# Altium schematic symbol library FPGA_Xilinx_Kintex7.SchLib: 18 symbols (part 1 of 8)
Pins are listed as number, name and electrical type; pins without a type are passive.

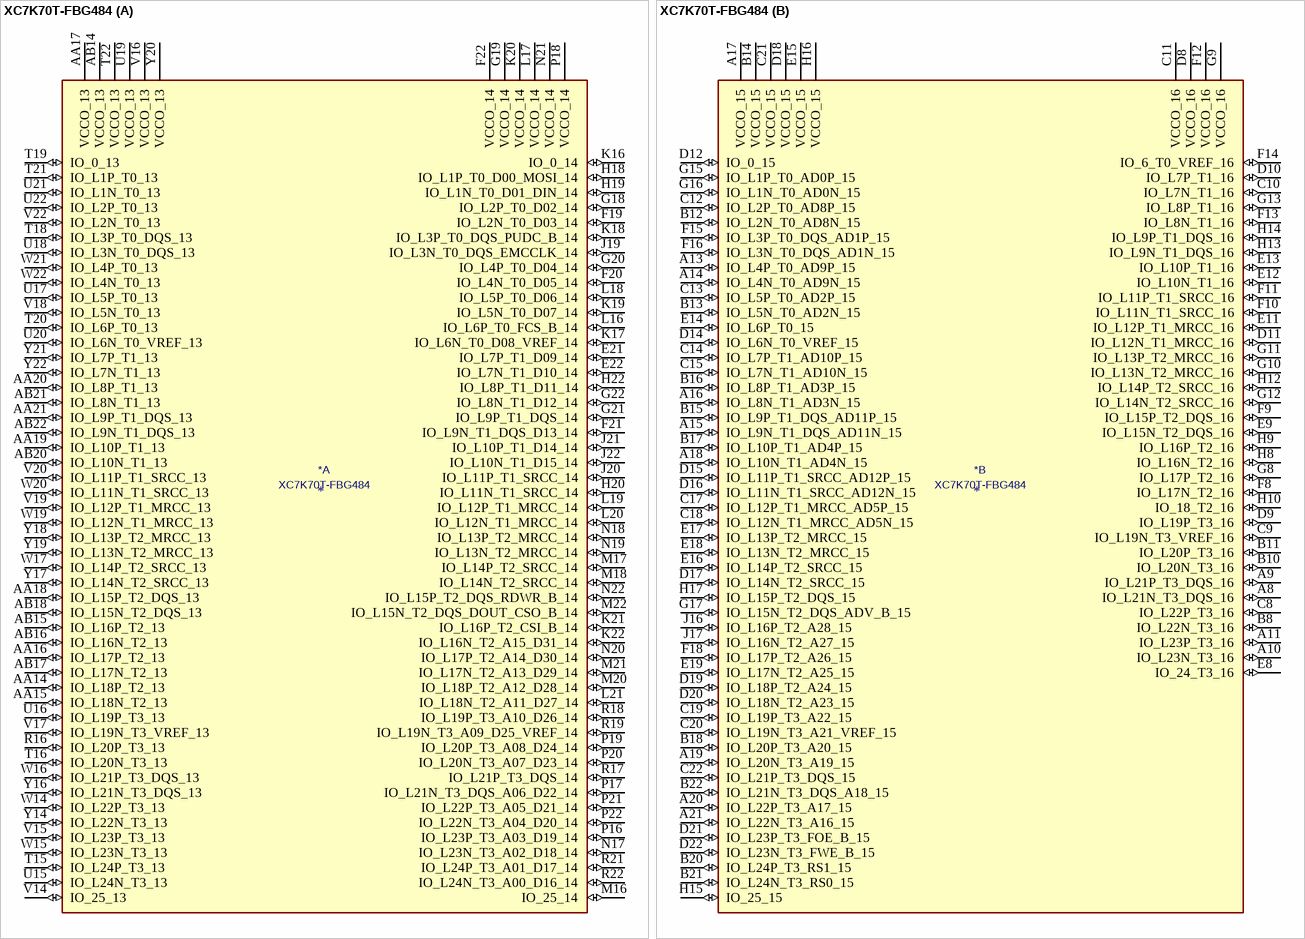
[diagram p0: symbol XC7K70T-FBG484]

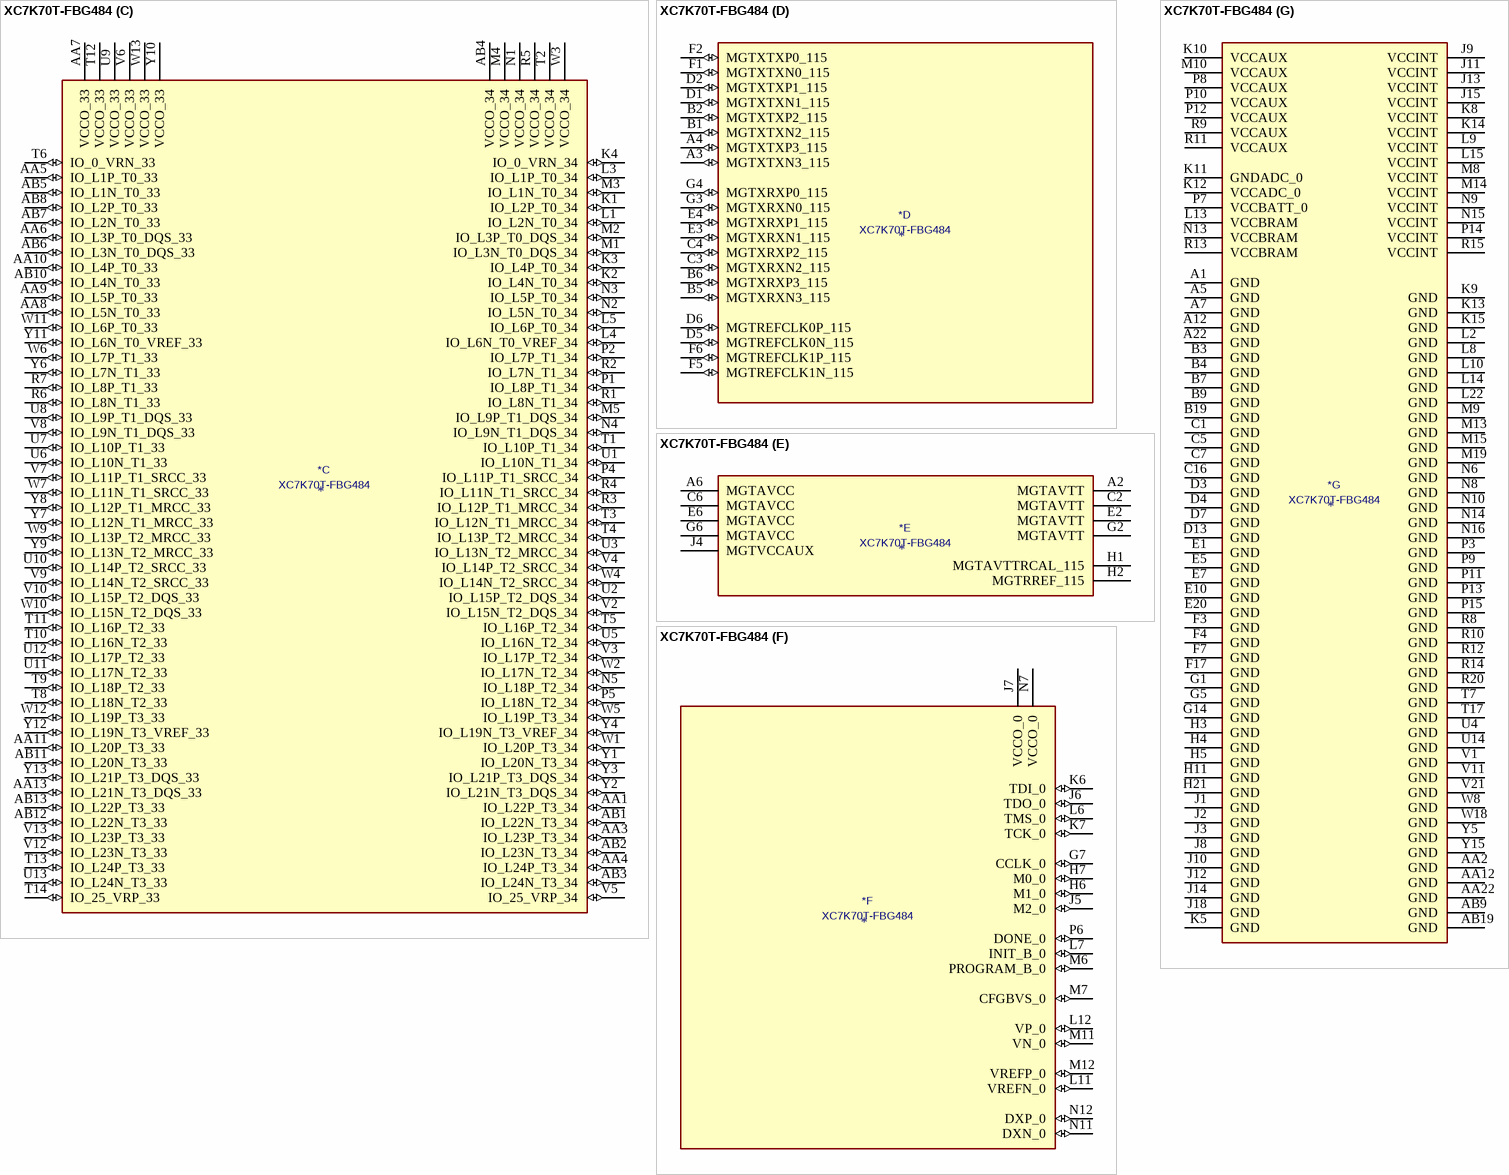
[diagram p1: symbol XC7K70T-FBG484]

## XC7K70T-FBG484
designator *  value XC7K70T-FBG484
ki_keywords: FPGA; ki_description: Kintex 7 T 70 XC7K70T-FBG484
part A pins: AA14 IO_L18P_T2_13 (io), AA15 IO_L18N_T2_13 (io), AA16 IO_L17P_T2_13 (io), AA17 VCCO_13 (power), AA18 IO_L15P_T2_DQS_13 (io), AA19 IO_L10P_T1_13 (io), AA20 IO_L8P_T1_13 (io), AA21 IO_L9P_T1_DQS_13 (io), AB14 VCCO_13 (power), AB15 IO_L16P_T2_13 (io), AB16 IO_L16N_T2_13 (io), AB17 IO_L17N_T2_13 (io), AB18 IO_L15N_T2_DQS_13 (io), AB20 IO_L10N_T1_13 (io), AB21 IO_L8N_T1_13 (io), AB22 IO_L9N_T1_DQS_13 (io), E21 IO_L7P_T1_D09_14 (io), E22 IO_L7N_T1_D10_14 (io), F19 IO_L2N_T0_D03_14 (io), F20 IO_L4N_T0_D05_14 (io), F21 IO_L9N_T1_DQS_D13_14 (io), F22 VCCO_14 (power), G18 IO_L2P_T0_D02_14 (io), G19 VCCO_14 (power), G20 IO_L4P_T0_D04_14 (io), G21 IO_L9P_T1_DQS_14 (io), G22 IO_L8N_T1_D12_14 (io), H18 IO_L1P_T0_D00_MOSI_14 (io), H19 IO_L1N_T0_D01_DIN_14 (io), H20 IO_L11N_T1_SRCC_14 (io), H22 IO_L8P_T1_D11_14 (io), J19 IO_L3N_T0_DQS_EMCCLK_14 (io), J20 IO_L11P_T1_SRCC_14 (io), J21 IO_L10P_T1_D14_14 (io), J22 IO_L10N_T1_D15_14 (io), K16 IO_0_14 (io), K17 IO_L6N_T0_D08_VREF_14 (io), K18 IO_L3P_T0_DQS_PUDC_B_14 (io), K19 IO_L5N_T0_D07_14 (io), K20 VCCO_14 (power), K21 IO_L16P_T2_CSI_B_14 (io), K22 IO_L16N_T2_A15_D31_14 (io), L16 IO_L6P_T0_FCS_B_14 (io), L17 VCCO_14 (power), L18 IO_L5P_T0_D06_14 (io), L19 IO_L12P_T1_MRCC_14 (io), L20 IO_L12N_T1_MRCC_14 (io), L21 IO_L18N_T2_A11_D27_14 (io), M16 IO_25_14 (io), M17 IO_L14P_T2_SRCC_14 (io), M18 IO_L14N_T2_SRCC_14 (io), M20 IO_L18P_T2_A12_D28_14 (io), M21 IO_L17N_T2_A13_D29_14 (io), M22 IO_L15N_T2_DQS_DOUT_CSO_B_14 (io), N17 IO_L23N_T3_A02_D18_14 (io), N18 IO_L13P_T2_MRCC_14 (io), N19 IO_L13N_T2_MRCC_14 (io), N20 IO_L17P_T2_A14_D30_14 (io), N21 VCCO_14 (power), N22 IO_L15P_T2_DQS_RDWR_B_14 (io), P16 IO_L23P_T3_A03_D19_14 (io), P17 IO_L21N_T3_DQS_A06_D22_14 (io), P18 VCCO_14 (power), P19 IO_L20P_T3_A08_D24_14 (io), P20 IO_L20N_T3_A07_D23_14 (io), P21 IO_L22P_T3_A05_D21_14 (io), P22 IO_L22N_T3_A04_D20_14 (io), R16 IO_L20P_T3_13 (io), R17 IO_L21P_T3_DQS_14 (io), R18 IO_L19P_T3_A10_D26_14 (io), R19 IO_L19N_T3_A09_D25_VREF_14 (io), R21 IO_L24P_T3_A01_D17_14 (io), R22 IO_L24N_T3_A00_D16_14 (io), T15 IO_L24P_T3_13 (io), T16 IO_L20N_T3_13 (io), T18 IO_L3P_T0_DQS_13 (io), T19 IO_0_13 (io), T20 IO_L6P_T0_13 (io), T21 IO_L1P_T0_13 (io), T22 VCCO_13 (power), U15 IO_L24N_T3_13 (io), U16 IO_L19P_T3_13 (io), U17 IO_L5P_T0_13 (io), U18 IO_L3N_T0_DQS_13 (io), U19 VCCO_13 (power), U20 IO_L6N_T0_VREF_13 (io), U21 IO_L1N_T0_13 (io), U22 IO_L2P_T0_13 (io), V14 IO_25_13 (io), V15 IO_L23P_T3_13 (io), V16 VCCO_13 (power), V17 IO_L19N_T3_VREF_13 (io), V18 IO_L5N_T0_13 (io), V19 IO_L12P_T1_MRCC_13 (io), V20 IO_L11P_T1_SRCC_13 (io), V22 IO_L2N_T0_13 (io), W14 IO_L22P_T3_13 (io), W15 IO_L23N_T3_13 (io), W16 IO_L21P_T3_DQS_13 (io), W17 IO_L14P_T2_SRCC_13 (io), W19 IO_L12N_T1_MRCC_13 (io), W20 IO_L11N_T1_SRCC_13 (io), W21 IO_L4P_T0_13 (io), W22 IO_L4N_T0_13 (io), Y14 IO_L22N_T3_13 (io), Y16 IO_L21N_T3_DQS_13 (io), Y17 IO_L14N_T2_SRCC_13 (io), Y18 IO_L13P_T2_MRCC_13 (io), Y19 IO_L13N_T2_MRCC_13 (io), Y20 VCCO_13 (power), Y21 IO_L7P_T1_13 (io), Y22 IO_L7N_T1_13 (io)
part B pins: A8 IO_L21N_T3_DQS_16 (io), A9 IO_L21P_T3_DQS_16 (io), A10 IO_L23N_T3_16 (io), A11 IO_L23P_T3_16 (io), A13 IO_L4P_T0_AD9P_15 (io), A14 IO_L4N_T0_AD9N_15 (io), A15 IO_L9N_T1_DQS_AD11N_15 (io), A16 IO_L8N_T1_AD3N_15 (io), A17 VCCO_15 (power), A18 IO_L10N_T1_AD4N_15 (io), A19 IO_L20N_T3_A19_15 (io), A20 IO_L22P_T3_A17_15 (io), A21 IO_L22N_T3_A16_15 (io), B8 IO_L22N_T3_16 (io), B10 IO_L20N_T3_16 (io), B11 IO_L20P_T3_16 (io), B12 IO_L2N_T0_AD8N_15 (io), B13 IO_L5N_T0_AD2N_15 (io), B14 VCCO_15 (power), B15 IO_L9P_T1_DQS_AD11P_15 (io), B16 IO_L8P_T1_AD3P_15 (io), B17 IO_L10P_T1_AD4P_15 (io), B18 IO_L20P_T3_A20_15 (io), B20 IO_L24P_T3_RS1_15 (io), B21 IO_L24N_T3_RS0_15 (io), B22 IO_L21N_T3_DQS_A18_15 (io), C8 IO_L22P_T3_16 (io), C9 IO_L19N_T3_VREF_16 (io), C10 IO_L7N_T1_16 (io), C11 VCCO_16 (power), C12 IO_L2P_T0_AD8P_15 (io), C13 IO_L5P_T0_AD2P_15 (io), C14 IO_L7P_T1_AD10P_15 (io), C15 IO_L7N_T1_AD10N_15 (io), C17 IO_L12P_T1_MRCC_AD5P_15 (io), C18 IO_L12N_T1_MRCC_AD5N_15 (io), C19 IO_L19P_T3_A22_15 (io), C20 IO_L19N_T3_A21_VREF_15 (io), C21 VCCO_15 (power), C22 IO_L21P_T3_DQS_15 (io), D8 VCCO_16 (power), D9 IO_L19P_T3_16 (io), D10 IO_L7P_T1_16 (io), D11 IO_L12N_T1_MRCC_16 (io), D12 IO_0_15 (io), D14 IO_L6N_T0_VREF_15 (io), D15 IO_L11P_T1_SRCC_AD12P_15 (io), D16 IO_L11N_T1_SRCC_AD12N_15 (io), D17 IO_L14N_T2_SRCC_15 (io), D18 VCCO_15 (power), D19 IO_L18P_T2_A24_15 (io), D20 IO_L18N_T2_A23_15 (io), D21 IO_L23P_T3_FOE_B_15 (io), D22 IO_L23N_T3_FWE_B_15 (io), E8 IO_24_T3_16 (io), E9 IO_L15N_T2_DQS_16 (io), E11 IO_L12P_T1_MRCC_16 (io), E12 IO_L10N_T1_16 (io), E13 IO_L10P_T1_16 (io), E14 IO_L6P_T0_15 (io), E15 VCCO_15 (power), E16 IO_L14P_T2_SRCC_15 (io), E17 IO_L13P_T2_MRCC_15 (io), E18 IO_L13N_T2_MRCC_15 (io), E19 IO_L17N_T2_A25_15 (io), F8 IO_L17N_T2_16 (io), F9 IO_L15P_T2_DQS_16 (io), F10 IO_L11N_T1_SRCC_16 (io), F11 IO_L11P_T1_SRCC_16 (io), F12 VCCO_16 (power), F13 IO_L8N_T1_16 (io), F14 IO_6_T0_VREF_16 (io), F15 IO_L3P_T0_DQS_AD1P_15 (io), F16 IO_L3N_T0_DQS_AD1N_15 (io), F18 IO_L17P_T2_A26_15 (io), G8 IO_L17P_T2_16 (io), G9 VCCO_16 (power), G10 IO_L13N_T2_MRCC_16 (io), G11 IO_L13P_T2_MRCC_16 (io), G12 IO_L14N_T2_SRCC_16 (io), G13 IO_L8P_T1_16 (io), G15 IO_L1P_T0_AD0P_15 (io), G16 IO_L1N_T0_AD0N_15 (io), G17 IO_L15N_T2_DQS_ADV_B_15 (io), H8 IO_L16N_T2_16 (io), H9 IO_L16P_T2_16 (io), H10 IO_18_T2_16 (io), H12 IO_L14P_T2_SRCC_16 (io), H13 IO_L9N_T1_DQS_16 (io), H14 IO_L9P_T1_DQS_16 (io), H15 IO_25_15 (io), H16 VCCO_15 (power), H17 IO_L15P_T2_DQS_15 (io), J16 IO_L16P_T2_A28_15 (io), J17 IO_L16N_T2_A27_15 (io)
part C pins: AA1 IO_L22P_T3_34 (io), AA3 IO_L23P_T3_34 (io), AA4 IO_L24P_T3_34 (io), AA5 IO_L1P_T0_33 (io), AA6 IO_L3P_T0_DQS_33 (io), AA7 VCCO_33 (power), AA8 IO_L5N_T0_33 (io), AA9 IO_L5P_T0_33 (io), AA10 IO_L4P_T0_33 (io), AA11 IO_L20P_T3_33 (io), AA13 IO_L21N_T3_DQS_33 (io), AB1 IO_L22N_T3_34 (io), AB2 IO_L23N_T3_34 (io), AB3 IO_L24N_T3_34 (io), AB4 VCCO_34 (power), AB5 IO_L1N_T0_33 (io), AB6 IO_L3N_T0_DQS_33 (io), AB7 IO_L2N_T0_33 (io), AB8 IO_L2P_T0_33 (io), AB10 IO_L4N_T0_33 (io), AB11 IO_L20N_T3_33 (io), AB12 IO_L22N_T3_33 (io), AB13 IO_L22P_T3_33 (io), K1 IO_L2P_T0_34 (io), K2 IO_L4N_T0_34 (io), K3 IO_L4P_T0_34 (io), K4 IO_0_VRN_34 (io), L1 IO_L2N_T0_34 (io), L3 IO_L1P_T0_34 (io), L4 IO_L6N_T0_VREF_34 (io), L5 IO_L6P_T0_34 (io), M1 IO_L3N_T0_DQS_34 (io), M2 IO_L3P_T0_DQS_34 (io), M3 IO_L1N_T0_34 (io), M4 VCCO_34 (power), M5 IO_L9P_T1_DQS_34 (io), N1 VCCO_34 (power), N2 IO_L5N_T0_34 (io), N3 IO_L5P_T0_34 (io), N4 IO_L9N_T1_DQS_34 (io), N5 IO_L18P_T2_34 (io), P1 IO_L8P_T1_34 (io), P2 IO_L7P_T1_34 (io), P4 IO_L11P_T1_SRCC_34 (io), P5 IO_L18N_T2_34 (io), R1 IO_L8N_T1_34 (io), R2 IO_L7N_T1_34 (io), R3 IO_L12P_T1_MRCC_34 (io), R4 IO_L11N_T1_SRCC_34 (io), R5 VCCO_34 (power), R6 IO_L8N_T1_33 (io), R7 IO_L8P_T1_33 (io), T1 IO_L10P_T1_34 (io), T2 VCCO_34 (power), T3 IO_L12N_T1_MRCC_34 (io), T4 IO_L13P_T2_MRCC_34 (io), T5 IO_L16P_T2_34 (io), T6 IO_0_VRN_33 (io), T8 IO_L18N_T2_33 (io), T9 IO_L18P_T2_33 (io), T10 IO_L16N_T2_33 (io), T11 IO_L16P_T2_33 (io), T12 VCCO_33 (power), T13 IO_L24P_T3_33 (io), T14 IO_25_VRP_33 (io), U1 IO_L10N_T1_34 (io), U2 IO_L15P_T2_DQS_34 (io), U3 IO_L13N_T2_MRCC_34 (io), U5 IO_L16N_T2_34 (io), U6 IO_L10N_T1_33 (io), U7 IO_L10P_T1_33 (io), U8 IO_L9P_T1_DQS_33 (io), U9 VCCO_33 (power), U10 IO_L14P_T2_SRCC_33 (io), U11 IO_L17N_T2_33 (io), U12 IO_L17P_T2_33 (io), U13 IO_L24N_T3_33 (io), V2 IO_L15N_T2_DQS_34 (io), V3 IO_L17P_T2_34 (io), V4 IO_L14P_T2_SRCC_34 (io), V5 IO_25_VRP_34 (io), V6 VCCO_33 (power), V7 IO_L11P_T1_SRCC_33 (io), V8 IO_L9N_T1_DQS_33 (io), V9 IO_L14N_T2_SRCC_33 (io), V10 IO_L15P_T2_DQS_33 (io), V12 IO_L23N_T3_33 (io), V13 IO_L23P_T3_33 (io), W1 IO_L20P_T3_34 (io), W2 IO_L17N_T2_34 (io), W3 VCCO_34 (power), W4 IO_L14N_T2_SRCC_34 (io), W5 IO_L19P_T3_34 (io), W6 IO_L7P_T1_33 (io), W7 IO_L11N_T1_SRCC_33 (io), W9 IO_L13P_T2_MRCC_33 (io), W10 IO_L15N_T2_DQS_33 (io), W11 IO_L6P_T0_33 (io), W12 IO_L19P_T3_33 (io), W13 VCCO_33 (power), Y1 IO_L20N_T3_34 (io), Y2 IO_L21N_T3_DQS_34 (io), Y3 IO_L21P_T3_DQS_34 (io), Y4 IO_L19N_T3_VREF_34 (io), Y6 IO_L7N_T1_33 (io), Y7 IO_L12N_T1_MRCC_33 (io), Y8 IO_L12P_T1_MRCC_33 (io), Y9 IO_L13N_T2_MRCC_33 (io), Y10 VCCO_33 (power), Y11 IO_L6N_T0_VREF_33 (io), Y12 IO_L19N_T3_VREF_33 (io), Y13 IO_L21P_T3_DQS_33 (io)
part D pins: A3 MGTXTXN3_115 (io), A4 MGTXTXP3_115 (io), B1 MGTXTXN2_115 (io), B2 MGTXTXP2_115 (io), B5 MGTXRXN3_115 (io), B6 MGTXRXP3_115 (io), C3 MGTXRXN2_115 (io), C4 MGTXRXP2_115 (io), D1 MGTXTXN1_115 (io), D2 MGTXTXP1_115 (io), D5 MGTREFCLK0N_115 (io), D6 MGTREFCLK0P_115 (io), E3 MGTXRXN1_115 (io), E4 MGTXRXP1_115 (io), F1 MGTXTXN0_115 (io), F2 MGTXTXP0_115 (io), F5 MGTREFCLK1N_115 (io), F6 MGTREFCLK1P_115 (io), G3 MGTXRXN0_115 (io), G4 MGTXRXP0_115 (io)
part E pins: A2 MGTAVTT (power), A6 MGTAVCC (power), C2 MGTAVTT (power), C6 MGTAVCC (power), E2 MGTAVTT (power), E6 MGTAVCC (power), G2 MGTAVTT (power), G6 MGTAVCC (power), H1 MGTAVTTRCAL_115 (power), H2 MGTRREF_115 (power), J4 MGTVCCAUX (power)
part F pins: G7 CCLK_0 (io), H6 M1_0 (io), H7 M0_0 (io), J5 M2_0 (io), J6 TDO_0 (io), J7 VCCO_0 (power), K6 TDI_0 (io), K7 TCK_0 (io), L6 TMS_0 (io), L7 INIT_B_0 (io), L11 VREFN_0 (io), L12 VP_0 (io), M6 PROGRAM_B_0 (io), M7 CFGBVS_0 (io), M11 VN_0 (io), M12 VREFP_0 (io), N7 VCCO_0 (power), N11 DXN_0 (io), N12 DXP_0 (io), P6 DONE_0 (io)
part G pins: A1 GND (power), A5 GND (power), A7 GND (power), A12 GND (power), A22 GND (power), AA2 GND (power), AA12 GND (power), AA22 GND (power), AB9 GND (power), AB19 GND (power), B3 GND (power), B4 GND (power), B7 GND (power), B9 GND (power), B19 GND (power), C1 GND (power), C5 GND (power), C7 GND (power), C16 GND (power), D3 GND (power), D4 GND (power), D7 GND (power), D13 GND (power), E1 GND (power), E5 GND (power), E7 GND (power), E10 GND (power), E20 GND (power), F3 GND (power), F4 GND (power), F7 GND (power), F17 GND (power), G1 GND (power), G5 GND (power), G14 GND (power), H3 GND (power), H4 GND (power), H5 GND (power), H11 GND (power), H21 GND (power), J1 GND (power), J2 GND (power), J3 GND (power), J8 GND (power), J9 VCCINT (power), J10 GND (power), J11 VCCINT (power), J12 GND (power), J13 VCCINT (power), J14 GND (power), J15 VCCINT (power), J18 GND (power), K5 GND (power), K8 VCCINT (power), K9 GND (power), K10 VCCAUX (power), K11 GNDADC_0 (power), K12 VCCADC_0 (power), K13 GND (power), K14 VCCINT (power), K15 GND (power), L2 GND (power), L8 GND (power), L9 VCCINT (power), L10 GND (power), L13 VCCBRAM (power), L14 GND (power), L15 VCCINT (power), L22 GND (power), M8 VCCINT (power), M9 GND (power), M10 VCCAUX (power), M13 GND (power), M14 VCCINT (power), M15 GND (power), M19 GND (power), N6 GND (power), N8 GND (power), N9 VCCINT (power), N10 GND (power), N13 VCCBRAM (power), N14 GND (power), N15 VCCINT (power), N16 GND (power), P3 GND (power), P7 VCCBATT_0 (power), P8 VCCAUX (power), P9 GND (power), P10 VCCAUX (power), P11 GND (power), P12 VCCAUX (power), P13 GND (power), P14 VCCINT (power), P15 GND (power), R8 GND (power), R9 VCCAUX (power), R10 GND (power), R11 VCCAUX (power), R12 GND (power), R13 VCCBRAM (power), R14 GND (power), R15 VCCINT (power), R20 GND (power), T7 GND (power), T17 GND (power), U4 GND (power), U14 GND (power), V1 GND (power), V11 GND (power), V21 GND (power), W8 GND (power), W18 GND (power), Y5 GND (power), Y15 GND (power)

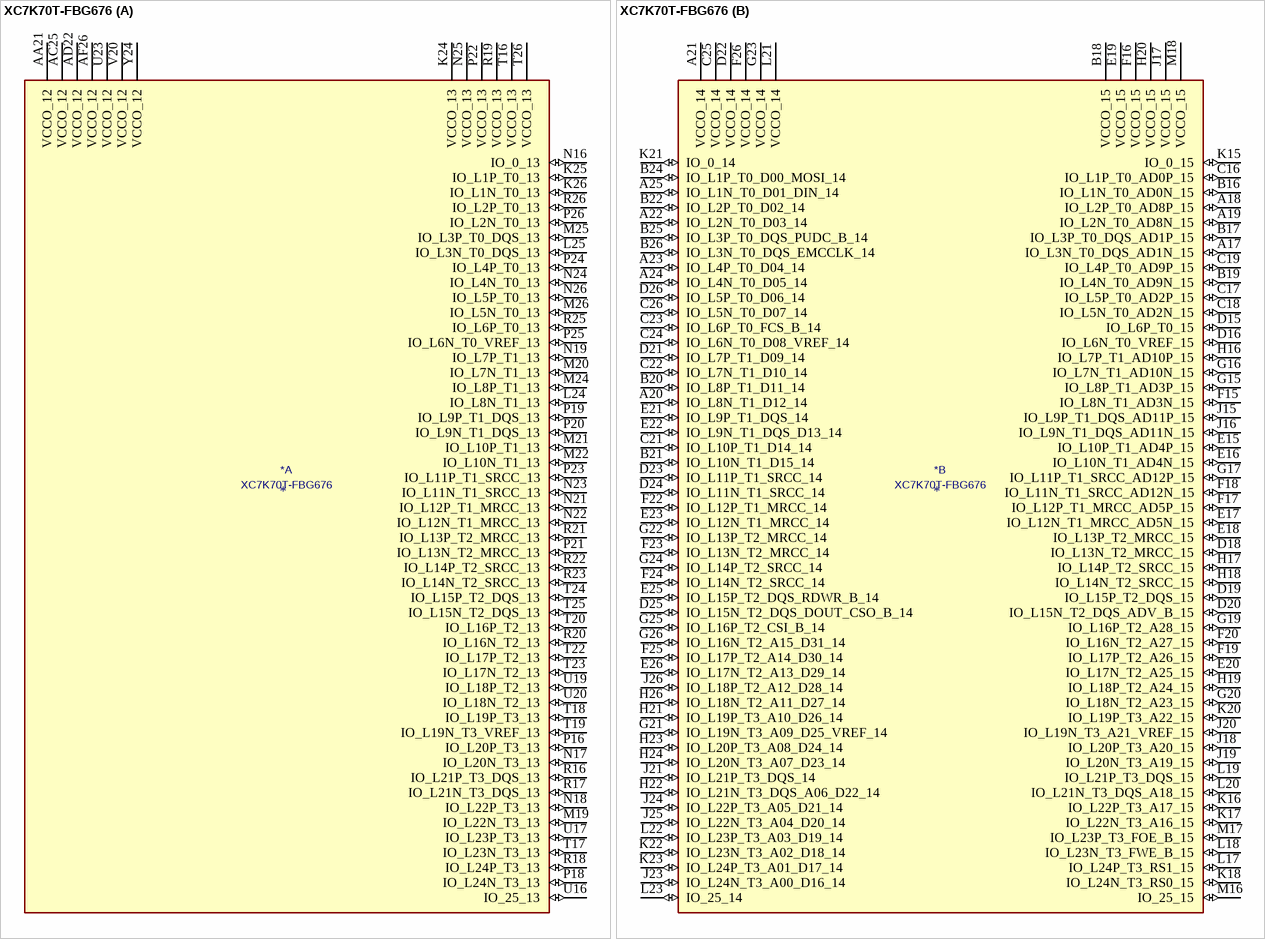
[diagram p2: symbol XC7K70T-FBG676]

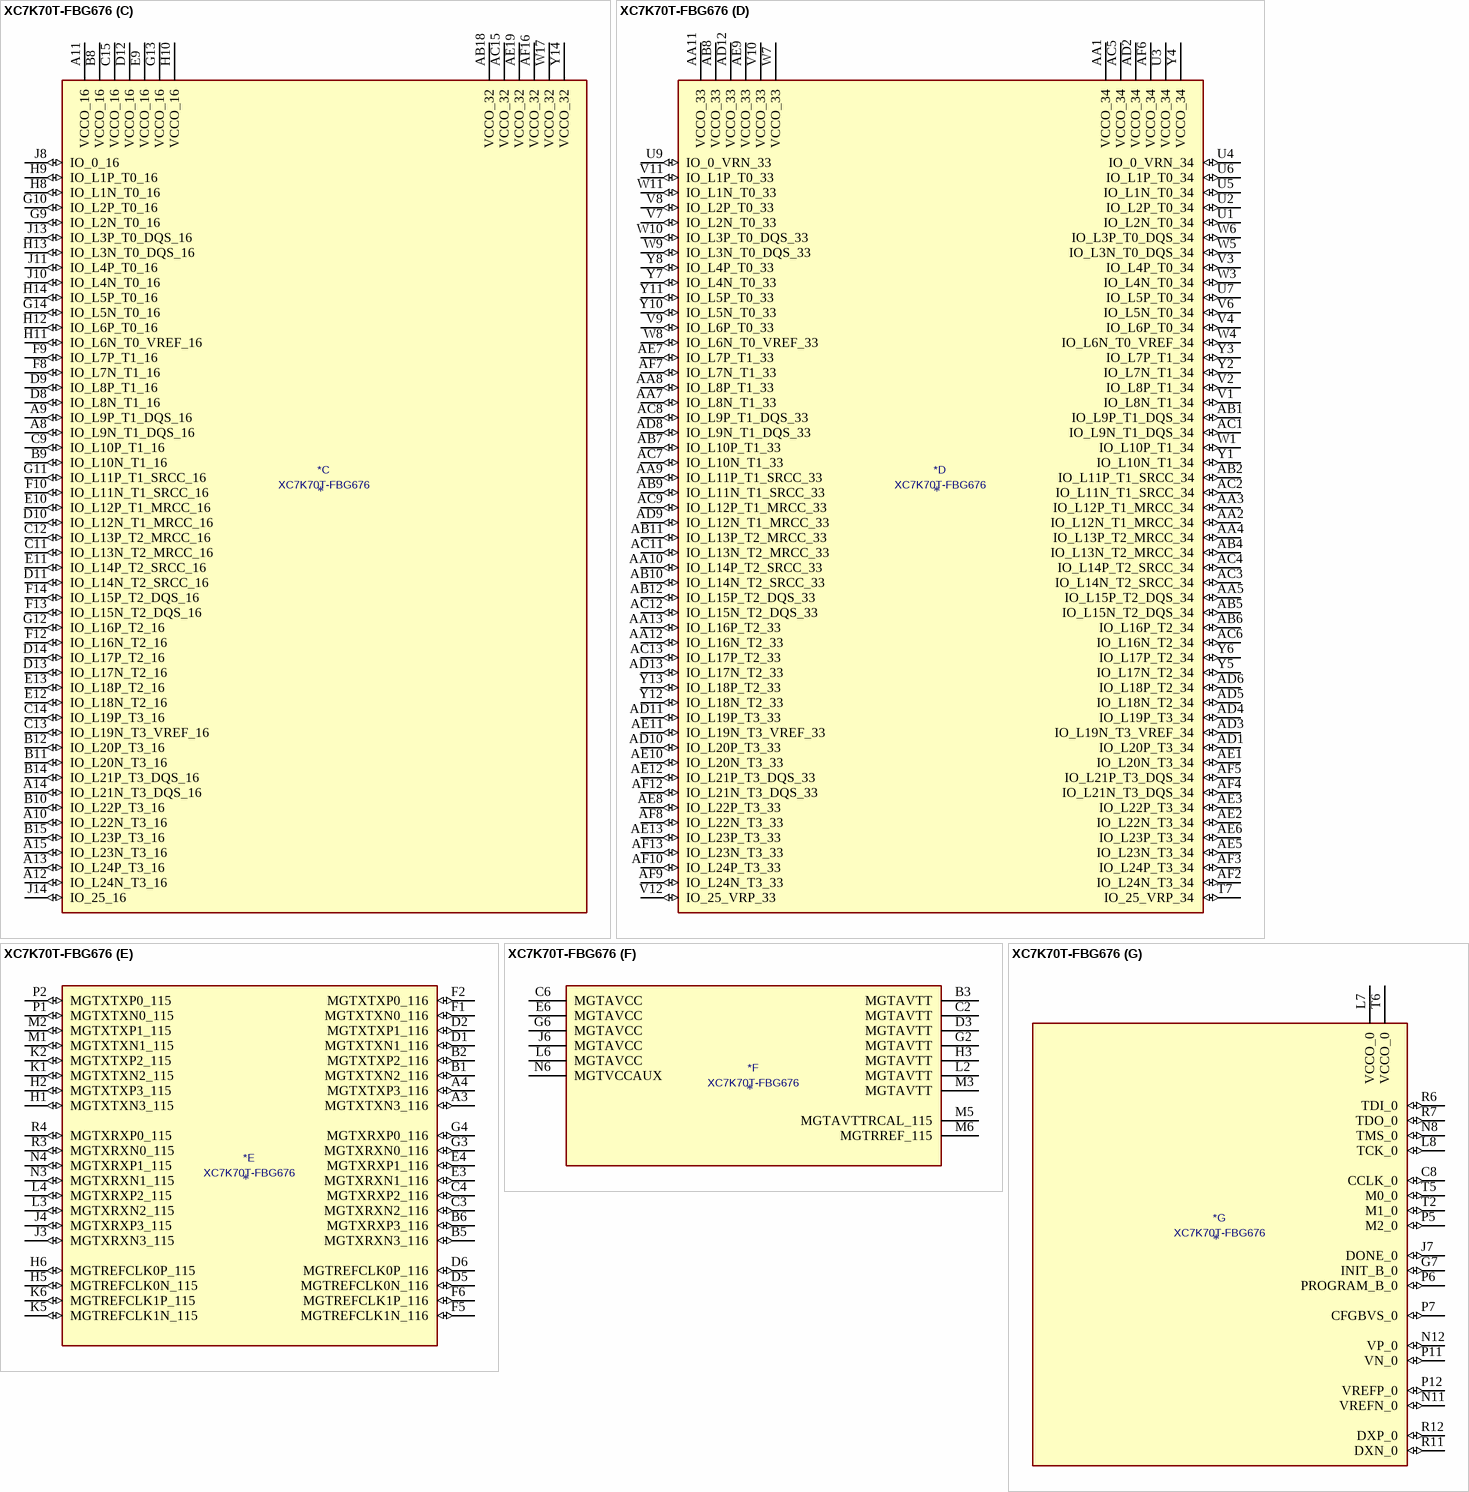
[diagram p3: symbol XC7K70T-FBG676]

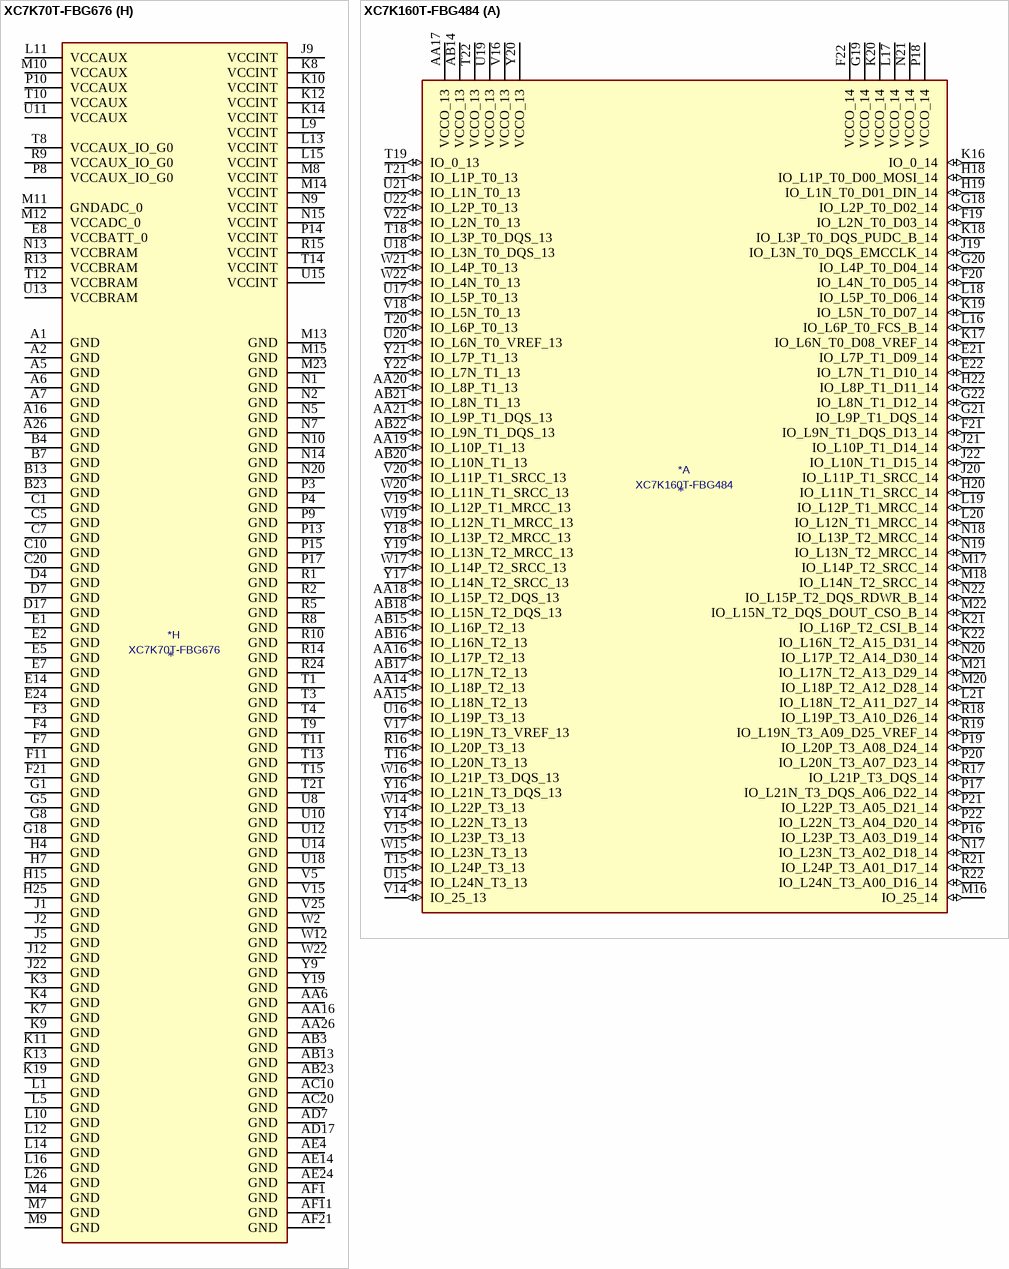
[diagram p4: symbols XC7K70T-FBG676 to XC7K160T-FBG484]

## XC7K70T-FBG676
designator *  value XC7K70T-FBG676
ki_keywords: FPGA; ki_description: Kintex 7 T 70 XC7K70T-FBG676
part A pins: AA21 VCCO_12 (power), AC25 VCCO_12 (power), AD22 VCCO_12 (power), AF26 VCCO_12 (power), K24 VCCO_13 (power), K25 IO_L1P_T0_13 (io), K26 IO_L1N_T0_13 (io), L24 IO_L8N_T1_13 (io), L25 IO_L3N_T0_DQS_13 (io), M19 IO_L22N_T3_13 (io), M20 IO_L7N_T1_13 (io), M21 IO_L10P_T1_13 (io), M22 IO_L10N_T1_13 (io), M24 IO_L8P_T1_13 (io), M25 IO_L3P_T0_DQS_13 (io), M26 IO_L5N_T0_13 (io), N16 IO_0_13 (io), N17 IO_L20N_T3_13 (io), N18 IO_L22P_T3_13 (io), N19 IO_L7P_T1_13 (io), N21 IO_L12P_T1_MRCC_13 (io), N22 IO_L12N_T1_MRCC_13 (io), N23 IO_L11N_T1_SRCC_13 (io), N24 IO_L4N_T0_13 (io), N25 VCCO_13 (power), N26 IO_L5P_T0_13 (io), P16 IO_L20P_T3_13 (io), P18 IO_L24N_T3_13 (io), P19 IO_L9P_T1_DQS_13 (io), P20 IO_L9N_T1_DQS_13 (io), P21 IO_L13N_T2_MRCC_13 (io), P22 VCCO_13 (power), P23 IO_L11P_T1_SRCC_13 (io), P24 IO_L4P_T0_13 (io), P25 IO_L6N_T0_VREF_13 (io), P26 IO_L2N_T0_13 (io), R16 IO_L21P_T3_DQS_13 (io), R17 IO_L21N_T3_DQS_13 (io), R18 IO_L24P_T3_13 (io), R19 VCCO_13 (power), R20 IO_L16N_T2_13 (io), R21 IO_L13P_T2_MRCC_13 (io), R22 IO_L14P_T2_SRCC_13 (io), R23 IO_L14N_T2_SRCC_13 (io), R25 IO_L6P_T0_13 (io), R26 IO_L2P_T0_13 (io), T16 VCCO_13 (power), T17 IO_L23N_T3_13 (io), T18 IO_L19P_T3_13 (io), T19 IO_L19N_T3_VREF_13 (io), T20 IO_L16P_T2_13 (io), T22 IO_L17P_T2_13 (io), T23 IO_L17N_T2_13 (io), T24 IO_L15P_T2_DQS_13 (io), T25 IO_L15N_T2_DQS_13 (io), T26 VCCO_13 (power), U16 IO_25_13 (io), U17 IO_L23P_T3_13 (io), U19 IO_L18P_T2_13 (io), U20 IO_L18N_T2_13 (io), U23 VCCO_12 (power), V20 VCCO_12 (power), Y24 VCCO_12 (power)
part B pins: A17 IO_L3N_T0_DQS_AD1N_15 (io), A18 IO_L2P_T0_AD8P_15 (io), A19 IO_L2N_T0_AD8N_15 (io), A20 IO_L8N_T1_D12_14 (io), A21 VCCO_14 (power), A22 IO_L2N_T0_D03_14 (io), A23 IO_L4P_T0_D04_14 (io), A24 IO_L4N_T0_D05_14 (io), A25 IO_L1N_T0_D01_DIN_14 (io), B16 IO_L1N_T0_AD0N_15 (io), B17 IO_L3P_T0_DQS_AD1P_15 (io), B18 VCCO_15 (power), B19 IO_L4N_T0_AD9N_15 (io), B20 IO_L8P_T1_D11_14 (io), B21 IO_L10N_T1_D15_14 (io), B22 IO_L2P_T0_D02_14 (io), B24 IO_L1P_T0_D00_MOSI_14 (io), B25 IO_L3P_T0_DQS_PUDC_B_14 (io), B26 IO_L3N_T0_DQS_EMCCLK_14 (io), C16 IO_L1P_T0_AD0P_15 (io), C17 IO_L5P_T0_AD2P_15 (io), C18 IO_L5N_T0_AD2N_15 (io), C19 IO_L4P_T0_AD9P_15 (io), C21 IO_L10P_T1_D14_14 (io), C22 IO_L7N_T1_D10_14 (io), C23 IO_L6P_T0_FCS_B_14 (io), C24 IO_L6N_T0_D08_VREF_14 (io), C25 VCCO_14 (power), C26 IO_L5N_T0_D07_14 (io), D15 IO_L6P_T0_15 (io), D16 IO_L6N_T0_VREF_15 (io), D18 IO_L13N_T2_MRCC_15 (io), D19 IO_L15P_T2_DQS_15 (io), D20 IO_L15N_T2_DQS_ADV_B_15 (io), D21 IO_L7P_T1_D09_14 (io), D22 VCCO_14 (power), D23 IO_L11P_T1_SRCC_14 (io), D24 IO_L11N_T1_SRCC_14 (io), D25 IO_L15N_T2_DQS_DOUT_CSO_B_14 (io), D26 IO_L5P_T0_D06_14 (io), E15 IO_L10P_T1_AD4P_15 (io), E16 IO_L10N_T1_AD4N_15 (io), E17 IO_L12N_T1_MRCC_AD5N_15 (io), E18 IO_L13P_T2_MRCC_15 (io), E19 VCCO_15 (power), E20 IO_L17N_T2_A25_15 (io), E21 IO_L9P_T1_DQS_14 (io), E22 IO_L9N_T1_DQS_D13_14 (io), E23 IO_L12N_T1_MRCC_14 (io), E25 IO_L15P_T2_DQS_RDWR_B_14 (io), E26 IO_L17N_T2_A13_D29_14 (io), F15 IO_L8N_T1_AD3N_15 (io), F16 VCCO_15 (power), F17 IO_L12P_T1_MRCC_AD5P_15 (io), F18 IO_L11N_T1_SRCC_AD12N_15 (io), F19 IO_L17P_T2_A26_15 (io), F20 IO_L16N_T2_A27_15 (io), F22 IO_L12P_T1_MRCC_14 (io), F23 IO_L13N_T2_MRCC_14 (io), F24 IO_L14N_T2_SRCC_14 (io), F25 IO_L17P_T2_A14_D30_14 (io), F26 VCCO_14 (power), G15 IO_L8P_T1_AD3P_15 (io), G16 IO_L7N_T1_AD10N_15 (io), G17 IO_L11P_T1_SRCC_AD12P_15 (io), G19 IO_L16P_T2_A28_15 (io), G20 IO_L18N_T2_A23_15 (io), G21 IO_L19N_T3_A09_D25_VREF_14 (io), G22 IO_L13P_T2_MRCC_14 (io), G23 VCCO_14 (power), G24 IO_L14P_T2_SRCC_14 (io), G25 IO_L16P_T2_CSI_B_14 (io), G26 IO_L16N_T2_A15_D31_14 (io), H16 IO_L7P_T1_AD10P_15 (io), H17 IO_L14P_T2_SRCC_15 (io), H18 IO_L14N_T2_SRCC_15 (io), H19 IO_L18P_T2_A24_15 (io), H20 VCCO_15 (power), H21 IO_L19P_T3_A10_D26_14 (io), H22 IO_L21N_T3_DQS_A06_D22_14 (io), H23 IO_L20P_T3_A08_D24_14 (io), H24 IO_L20N_T3_A07_D23_14 (io), H26 IO_L18N_T2_A11_D27_14 (io), J15 IO_L9P_T1_DQS_AD11P_15 (io), J16 IO_L9N_T1_DQS_AD11N_15 (io), J17 VCCO_15 (power), J18 IO_L20P_T3_A20_15 (io), J19 IO_L20N_T3_A19_15 (io), J20 IO_L19N_T3_A21_VREF_15 (io), J21 IO_L21P_T3_DQS_14 (io), J23 IO_L24N_T3_A00_D16_14 (io), J24 IO_L22P_T3_A05_D21_14 (io), J25 IO_L22N_T3_A04_D20_14 (io), J26 IO_L18P_T2_A12_D28_14 (io), K15 IO_0_15 (io), K16 IO_L22P_T3_A17_15 (io), K17 IO_L22N_T3_A16_15 (io), K18 IO_L24N_T3_RS0_15 (io), K20 IO_L19P_T3_A22_15 (io), K21 IO_0_14 (io), K22 IO_L23N_T3_A02_D18_14 (io), K23 IO_L24P_T3_A01_D17_14 (io), L17 IO_L24P_T3_RS1_15 (io), L18 IO_L23N_T3_FWE_B_15 (io), L19 IO_L21P_T3_DQS_15 (io), L20 IO_L21N_T3_DQS_A18_15 (io), L21 VCCO_14 (power), L22 IO_L23P_T3_A03_D19_14 (io), L23 IO_25_14 (io), M16 IO_25_15 (io), M17 IO_L23P_T3_FOE_B_15 (io), M18 VCCO_15 (power)
part C pins: A8 IO_L9N_T1_DQS_16 (io), A9 IO_L9P_T1_DQS_16 (io), A10 IO_L22N_T3_16 (io), A11 VCCO_16 (power), A12 IO_L24N_T3_16 (io), A13 IO_L24P_T3_16 (io), A14 IO_L21N_T3_DQS_16 (io), A15 IO_L23N_T3_16 (io), AB18 VCCO_32 (power), AC15 VCCO_32 (power), AE19 VCCO_32 (power), AF16 VCCO_32 (power), B8 VCCO_16 (power), B9 IO_L10N_T1_16 (io), B10 IO_L22P_T3_16 (io), B11 IO_L20N_T3_16 (io), B12 IO_L20P_T3_16 (io), B14 IO_L21P_T3_DQS_16 (io), B15 IO_L23P_T3_16 (io), C9 IO_L10P_T1_16 (io), C11 IO_L13N_T2_MRCC_16 (io), C12 IO_L13P_T2_MRCC_16 (io), C13 IO_L19N_T3_VREF_16 (io), C14 IO_L19P_T3_16 (io), C15 VCCO_16 (power), D8 IO_L8N_T1_16 (io), D9 IO_L8P_T1_16 (io), D10 IO_L12N_T1_MRCC_16 (io), D11 IO_L14N_T2_SRCC_16 (io), D12 VCCO_16 (power), D13 IO_L17N_T2_16 (io), D14 IO_L17P_T2_16 (io), E9 VCCO_16 (power), E10 IO_L12P_T1_MRCC_16 (io), E11 IO_L14P_T2_SRCC_16 (io), E12 IO_L18N_T2_16 (io), E13 IO_L18P_T2_16 (io), F8 IO_L7N_T1_16 (io), F9 IO_L7P_T1_16 (io), F10 IO_L11N_T1_SRCC_16 (io), F12 IO_L16N_T2_16 (io), F13 IO_L15N_T2_DQS_16 (io), F14 IO_L15P_T2_DQS_16 (io), G9 IO_L2N_T0_16 (io), G10 IO_L2P_T0_16 (io), G11 IO_L11P_T1_SRCC_16 (io), G12 IO_L16P_T2_16 (io), G13 VCCO_16 (power), G14 IO_L5N_T0_16 (io), H8 IO_L1N_T0_16 (io), H9 IO_L1P_T0_16 (io), H10 VCCO_16 (power), H11 IO_L6N_T0_VREF_16 (io), H12 IO_L6P_T0_16 (io), H13 IO_L3N_T0_DQS_16 (io), H14 IO_L5P_T0_16 (io), J8 IO_0_16 (io), J10 IO_L4N_T0_16 (io), J11 IO_L4P_T0_16 (io), J13 IO_L3P_T0_DQS_16 (io), J14 IO_25_16 (io), W17 VCCO_32 (power), Y14 VCCO_32 (power)
part D pins: AA1 VCCO_34 (power), AA2 IO_L12N_T1_MRCC_34 (io), AA3 IO_L12P_T1_MRCC_34 (io), AA4 IO_L13P_T2_MRCC_34 (io), AA5 IO_L15P_T2_DQS_34 (io), AA7 IO_L8N_T1_33 (io), AA8 IO_L8P_T1_33 (io), AA9 IO_L11P_T1_SRCC_33 (io), AA10 IO_L14P_T2_SRCC_33 (io), AA11 VCCO_33 (power), AA12 IO_L16N_T2_33 (io), AA13 IO_L16P_T2_33 (io), AB1 IO_L9P_T1_DQS_34 (io), AB2 IO_L11P_T1_SRCC_34 (io), AB4 IO_L13N_T2_MRCC_34 (io), AB5 IO_L15N_T2_DQS_34 (io), AB6 IO_L16P_T2_34 (io), AB7 IO_L10P_T1_33 (io), AB8 VCCO_33 (power), AB9 IO_L11N_T1_SRCC_33 (io), AB10 IO_L14N_T2_SRCC_33 (io), AB11 IO_L13P_T2_MRCC_33 (io), AB12 IO_L15P_T2_DQS_33 (io), AC1 IO_L9N_T1_DQS_34 (io), AC2 IO_L11N_T1_SRCC_34 (io), AC3 IO_L14N_T2_SRCC_34 (io), AC4 IO_L14P_T2_SRCC_34 (io), AC5 VCCO_34 (power), AC6 IO_L16N_T2_34 (io), AC7 IO_L10N_T1_33 (io), AC8 IO_L9P_T1_DQS_33 (io), AC9 IO_L12P_T1_MRCC_33 (io), AC11 IO_L13N_T2_MRCC_33 (io), AC12 IO_L15N_T2_DQS_33 (io), AC13 IO_L17P_T2_33 (io), AD1 IO_L20P_T3_34 (io), AD2 VCCO_34 (power), AD3 IO_L19N_T3_VREF_34 (io), AD4 IO_L19P_T3_34 (io), AD5 IO_L18N_T2_34 (io), AD6 IO_L18P_T2_34 (io), AD8 IO_L9N_T1_DQS_33 (io), AD9 IO_L12N_T1_MRCC_33 (io), AD10 IO_L20P_T3_33 (io), AD11 IO_L19P_T3_33 (io), AD12 VCCO_33 (power), AD13 IO_L17N_T2_33 (io), AE1 IO_L20N_T3_34 (io), AE2 IO_L22N_T3_34 (io), AE3 IO_L22P_T3_34 (io), AE5 IO_L23N_T3_34 (io), AE6 IO_L23P_T3_34 (io), AE7 IO_L7P_T1_33 (io), AE8 IO_L22P_T3_33 (io), AE9 VCCO_33 (power), AE10 IO_L20N_T3_33 (io), AE11 IO_L19N_T3_VREF_33 (io), AE12 IO_L21P_T3_DQS_33 (io), AE13 IO_L23P_T3_33 (io), AF2 IO_L24N_T3_34 (io), AF3 IO_L24P_T3_34 (io), AF4 IO_L21N_T3_DQS_34 (io), AF5 IO_L21P_T3_DQS_34 (io), AF6 VCCO_34 (power), AF7 IO_L7N_T1_33 (io), AF8 IO_L22N_T3_33 (io), AF9 IO_L24N_T3_33 (io), AF10 IO_L24P_T3_33 (io), AF12 IO_L21N_T3_DQS_33 (io), AF13 IO_L23N_T3_33 (io), T7 IO_25_VRP_34 (io), U1 IO_L2N_T0_34 (io), U2 IO_L2P_T0_34 (io), U3 VCCO_34 (power), U4 IO_0_VRN_34 (io), U5 IO_L1N_T0_34 (io), U6 IO_L1P_T0_34 (io), U7 IO_L5P_T0_34 (io), U9 IO_0_VRN_33 (io), V1 IO_L8N_T1_34 (io), V2 IO_L8P_T1_34 (io), V3 IO_L4P_T0_34 (io), V4 IO_L6P_T0_34 (io), V6 IO_L5N_T0_34 (io), V7 IO_L2N_T0_33 (io), V8 IO_L2P_T0_33 (io), V9 IO_L6P_T0_33 (io), V10 VCCO_33 (power), V11 IO_L1P_T0_33 (io), V12 IO_25_VRP_33 (io), W1 IO_L10P_T1_34 (io), W3 IO_L4N_T0_34 (io), W4 IO_L6N_T0_VREF_34 (io), W5 IO_L3N_T0_DQS_34 (io), W6 IO_L3P_T0_DQS_34 (io), W7 VCCO_33 (power), W8 IO_L6N_T0_VREF_33 (io), W9 IO_L3N_T0_DQS_33 (io), W10 IO_L3P_T0_DQS_33 (io), W11 IO_L1N_T0_33 (io), Y1 IO_L10N_T1_34 (io), Y2 IO_L7N_T1_34 (io), Y3 IO_L7P_T1_34 (io), Y4 VCCO_34 (power), Y5 IO_L17N_T2_34 (io), Y6 IO_L17P_T2_34 (io), Y7 IO_L4N_T0_33 (io), Y8 IO_L4P_T0_33 (io), Y10 IO_L5N_T0_33 (io), Y11 IO_L5P_T0_33 (io), Y12 IO_L18N_T2_33 (io), Y13 IO_L18P_T2_33 (io)
part E pins: A3 MGTXTXN3_116 (io), A4 MGTXTXP3_116 (io), B1 MGTXTXN2_116 (io), B2 MGTXTXP2_116 (io), B5 MGTXRXN3_116 (io), B6 MGTXRXP3_116 (io), C3 MGTXRXN2_116 (io), C4 MGTXRXP2_116 (io), D1 MGTXTXN1_116 (io), D2 MGTXTXP1_116 (io), D5 MGTREFCLK0N_116 (io), D6 MGTREFCLK0P_116 (io), E3 MGTXRXN1_116 (io), E4 MGTXRXP1_116 (io), F1 MGTXTXN0_116 (io), F2 MGTXTXP0_116 (io), F5 MGTREFCLK1N_116 (io), F6 MGTREFCLK1P_116 (io), G3 MGTXRXN0_116 (io), G4 MGTXRXP0_116 (io), H1 MGTXTXN3_115 (io), H2 MGTXTXP3_115 (io), H5 MGTREFCLK0N_115 (io), H6 MGTREFCLK0P_115 (io), J3 MGTXRXN3_115 (io), J4 MGTXRXP3_115 (io), K1 MGTXTXN2_115 (io), K2 MGTXTXP2_115 (io), K5 MGTREFCLK1N_115 (io), K6 MGTREFCLK1P_115 (io), L3 MGTXRXN2_115 (io), L4 MGTXRXP2_115 (io), M1 MGTXTXN1_115 (io), M2 MGTXTXP1_115 (io), N3 MGTXRXN1_115 (io), N4 MGTXRXP1_115 (io), P1 MGTXTXN0_115 (io), P2 MGTXTXP0_115 (io), R3 MGTXRXN0_115 (io), R4 MGTXRXP0_115 (io)
part F pins: B3 MGTAVTT (power), C2 MGTAVTT (power), C6 MGTAVCC (power), D3 MGTAVTT (power), E6 MGTAVCC (power), G2 MGTAVTT (power), G6 MGTAVCC (power), H3 MGTAVTT (power), J6 MGTAVCC (power), L2 MGTAVTT (power), L6 MGTAVCC (power), M3 MGTAVTT (power), M5 MGTAVTTRCAL_115 (power), M6 MGTRREF_115 (power), N6 MGTVCCAUX (power)
part G pins: C8 CCLK_0 (io), G7 INIT_B_0 (io), J7 DONE_0 (io), L7 VCCO_0 (power), L8 TCK_0 (io), N8 TMS_0 (io), N11 VREFN_0 (io), N12 VP_0 (io), P5 M2_0 (io), P6 PROGRAM_B_0 (io), P7 CFGBVS_0 (io), P11 VN_0 (io), P12 VREFP_0 (io), R6 TDI_0 (io), R7 TDO_0 (io), R11 DXN_0 (io), R12 DXP_0 (io), T2 M1_0 (io), T5 M0_0 (io), T6 VCCO_0 (power)
part H pins: A1 GND (power), A2 GND (power), A5 GND (power), A6 GND (power), A7 GND (power), A16 GND (power), A26 GND (power), AA6 GND (power), AA16 GND (power), AA26 GND (power), AB3 GND (power), AB13 GND (power), AB23 GND (power), AC10 GND (power), AC20 GND (power), AD7 GND (power), AD17 GND (power), AE4 GND (power), AE14 GND (power), AE24 GND (power), AF1 GND (power), AF11 GND (power), AF21 GND (power), B4 GND (power), B7 GND (power), B13 GND (power), B23 GND (power), C1 GND (power), C5 GND (power), C7 GND (power), C10 GND (power), C20 GND (power), D4 GND (power), D7 GND (power), D17 GND (power), E1 GND (power), E2 GND (power), E5 GND (power), E7 GND (power), E8 VCCBATT_0 (power), E14 GND (power), E24 GND (power), F3 GND (power), F4 GND (power), F7 GND (power), F11 GND (power), F21 GND (power), G1 GND (power), G5 GND (power), G8 GND (power), G18 GND (power), H4 GND (power), H7 GND (power), H15 GND (power), H25 GND (power), J1 GND (power), J2 GND (power), J5 GND (power), J9 VCCINT (power), J12 GND (power), J22 GND (power), K3 GND (power), K4 GND (power), K7 GND (power), K8 VCCINT (power), K9 GND (power), K10 VCCINT (power), K11 GND (power), K12 VCCINT (power), K13 GND (power), K14 VCCINT (power), K19 GND (power), L1 GND (power), L5 GND (power), L9 VCCINT (power), L10 GND (power), L11 VCCAUX (power), L12 GND (power), L13 VCCINT (power), L14 GND (power), L15 VCCINT (power), L16 GND (power), L26 GND (power), M4 GND (power), M7 GND (power), M8 VCCINT (power), M9 GND (power), M10 VCCAUX (power), M11 GNDADC_0 (power), M12 VCCADC_0 (power), M13 GND (power), M14 VCCINT (power), M15 GND (power), M23 GND (power), N1 GND (power), N2 GND (power), N5 GND (power), N7 GND (power), N9 VCCINT (power), N10 GND (power), N13 VCCBRAM (power), N14 GND (power), N15 VCCINT (power), N20 GND (power), P3 GND (power), P4 GND (power), P8 VCCAUX_IO_G0 (power), P9 GND (power), P10 VCCAUX (power), P13 GND (power), P14 VCCINT (power), P15 GND (power), P17 GND (power), R1 GND (power), R2 GND (power), R5 GND (power), R8 GND (power), R9 VCCAUX_IO_G0 (power), R10 GND (power), R13 VCCBRAM (power), R14 GND (power), R15 VCCINT (power), R24 GND (power), T1 GND (power), T3 GND (power), T4 GND (power), T8 VCCAUX_IO_G0 (power), T9 GND (power), T10 VCCAUX (power), T11 GND (power), T12 VCCBRAM (power), T13 GND (power), T14 VCCINT (power), T15 GND (power), T21 GND (power), U8 GND (power), U10 GND (power), U11 VCCAUX (power), U12 GND (power), U13 VCCBRAM (power), U14 GND (power), U15 VCCINT (power), U18 GND (power), V5 GND (power), V15 GND (power), V25 GND (power), W2 GND (power), W12 GND (power), W22 GND (power), Y9 GND (power), Y19 GND (power)

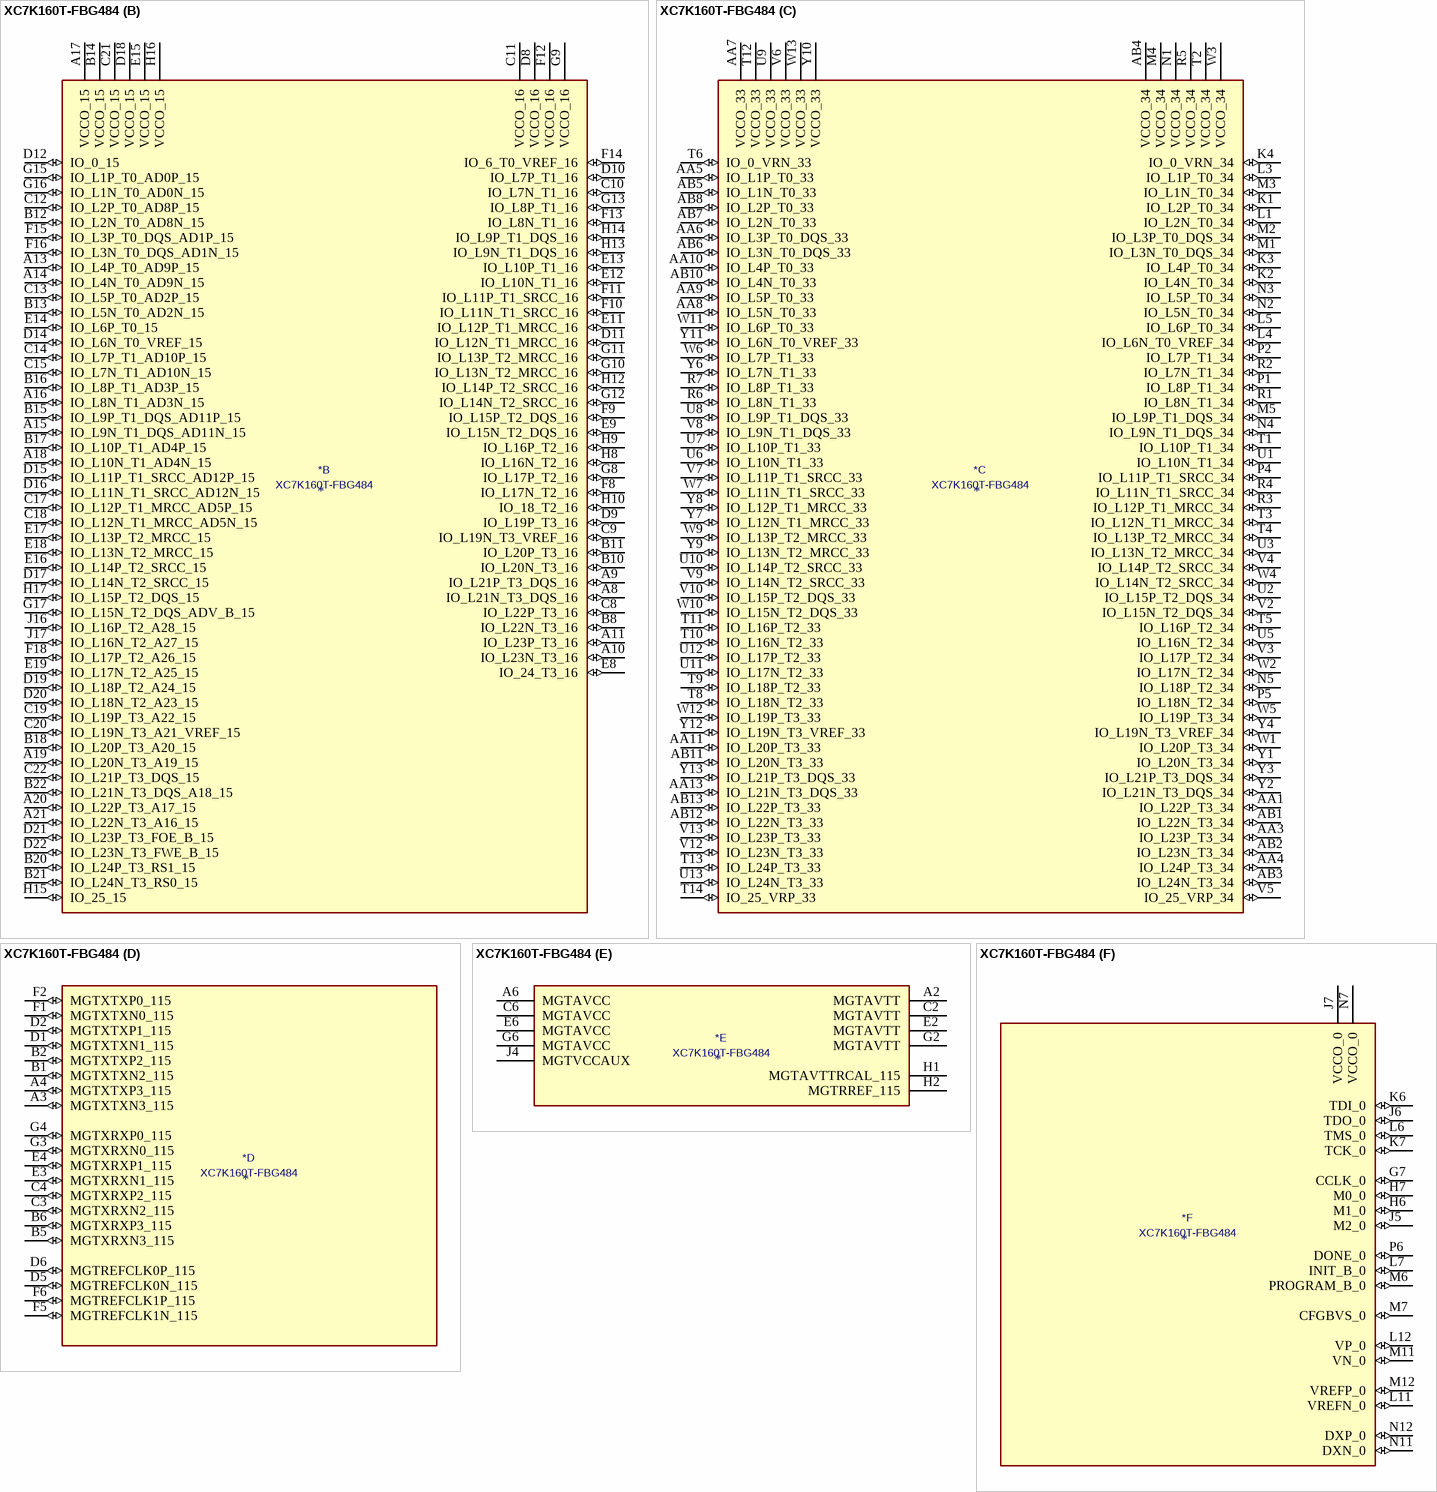
[diagram p5: symbol XC7K160T-FBG484]

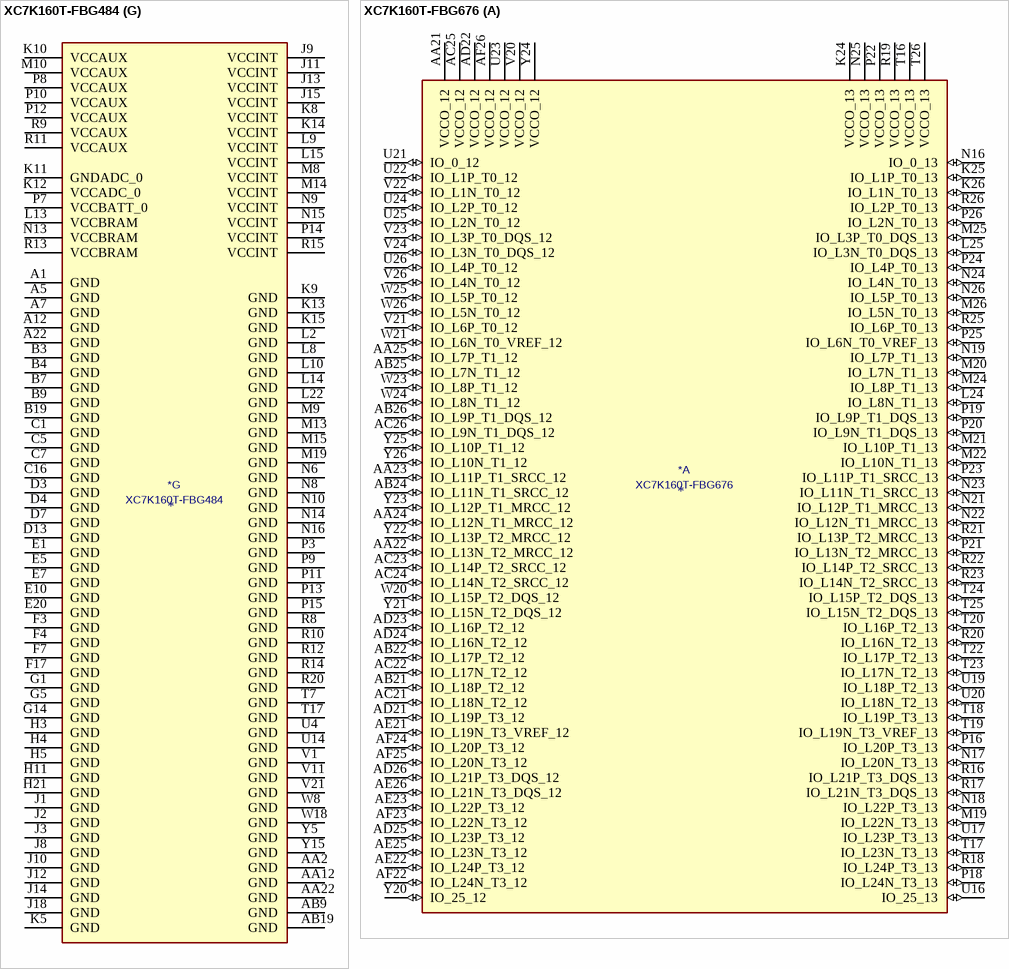
[diagram p6: symbols XC7K160T-FBG484 to XC7K160T-FBG676]

## XC7K160T-FBG484
designator *  value XC7K160T-FBG484
ki_keywords: FPGA; ki_description: Kintex 7 T 160 XC7K160T-FBG484
part A pins: AA14 IO_L18P_T2_13 (io), AA15 IO_L18N_T2_13 (io), AA16 IO_L17P_T2_13 (io), AA17 VCCO_13 (power), AA18 IO_L15P_T2_DQS_13 (io), AA19 IO_L10P_T1_13 (io), AA20 IO_L8P_T1_13 (io), AA21 IO_L9P_T1_DQS_13 (io), AB14 VCCO_13 (power), AB15 IO_L16P_T2_13 (io), AB16 IO_L16N_T2_13 (io), AB17 IO_L17N_T2_13 (io), AB18 IO_L15N_T2_DQS_13 (io), AB20 IO_L10N_T1_13 (io), AB21 IO_L8N_T1_13 (io), AB22 IO_L9N_T1_DQS_13 (io), E21 IO_L7P_T1_D09_14 (io), E22 IO_L7N_T1_D10_14 (io), F19 IO_L2N_T0_D03_14 (io), F20 IO_L4N_T0_D05_14 (io), F21 IO_L9N_T1_DQS_D13_14 (io), F22 VCCO_14 (power), G18 IO_L2P_T0_D02_14 (io), G19 VCCO_14 (power), G20 IO_L4P_T0_D04_14 (io), G21 IO_L9P_T1_DQS_14 (io), G22 IO_L8N_T1_D12_14 (io), H18 IO_L1P_T0_D00_MOSI_14 (io), H19 IO_L1N_T0_D01_DIN_14 (io), H20 IO_L11N_T1_SRCC_14 (io), H22 IO_L8P_T1_D11_14 (io), J19 IO_L3N_T0_DQS_EMCCLK_14 (io), J20 IO_L11P_T1_SRCC_14 (io), J21 IO_L10P_T1_D14_14 (io), J22 IO_L10N_T1_D15_14 (io), K16 IO_0_14 (io), K17 IO_L6N_T0_D08_VREF_14 (io), K18 IO_L3P_T0_DQS_PUDC_B_14 (io), K19 IO_L5N_T0_D07_14 (io), K20 VCCO_14 (power), K21 IO_L16P_T2_CSI_B_14 (io), K22 IO_L16N_T2_A15_D31_14 (io), L16 IO_L6P_T0_FCS_B_14 (io), L17 VCCO_14 (power), L18 IO_L5P_T0_D06_14 (io), L19 IO_L12P_T1_MRCC_14 (io), L20 IO_L12N_T1_MRCC_14 (io), L21 IO_L18N_T2_A11_D27_14 (io), M16 IO_25_14 (io), M17 IO_L14P_T2_SRCC_14 (io), M18 IO_L14N_T2_SRCC_14 (io), M20 IO_L18P_T2_A12_D28_14 (io), M21 IO_L17N_T2_A13_D29_14 (io), M22 IO_L15N_T2_DQS_DOUT_CSO_B_14 (io), N17 IO_L23N_T3_A02_D18_14 (io), N18 IO_L13P_T2_MRCC_14 (io), N19 IO_L13N_T2_MRCC_14 (io), N20 IO_L17P_T2_A14_D30_14 (io), N21 VCCO_14 (power), N22 IO_L15P_T2_DQS_RDWR_B_14 (io), P16 IO_L23P_T3_A03_D19_14 (io), P17 IO_L21N_T3_DQS_A06_D22_14 (io), P18 VCCO_14 (power), P19 IO_L20P_T3_A08_D24_14 (io), P20 IO_L20N_T3_A07_D23_14 (io), P21 IO_L22P_T3_A05_D21_14 (io), P22 IO_L22N_T3_A04_D20_14 (io), R16 IO_L20P_T3_13 (io), R17 IO_L21P_T3_DQS_14 (io), R18 IO_L19P_T3_A10_D26_14 (io), R19 IO_L19N_T3_A09_D25_VREF_14 (io), R21 IO_L24P_T3_A01_D17_14 (io), R22 IO_L24N_T3_A00_D16_14 (io), T15 IO_L24P_T3_13 (io), T16 IO_L20N_T3_13 (io), T18 IO_L3P_T0_DQS_13 (io), T19 IO_0_13 (io), T20 IO_L6P_T0_13 (io), T21 IO_L1P_T0_13 (io), T22 VCCO_13 (power), U15 IO_L24N_T3_13 (io), U16 IO_L19P_T3_13 (io), U17 IO_L5P_T0_13 (io), U18 IO_L3N_T0_DQS_13 (io), U19 VCCO_13 (power), U20 IO_L6N_T0_VREF_13 (io), U21 IO_L1N_T0_13 (io), U22 IO_L2P_T0_13 (io), V14 IO_25_13 (io), V15 IO_L23P_T3_13 (io), V16 VCCO_13 (power), V17 IO_L19N_T3_VREF_13 (io), V18 IO_L5N_T0_13 (io), V19 IO_L12P_T1_MRCC_13 (io), V20 IO_L11P_T1_SRCC_13 (io), V22 IO_L2N_T0_13 (io), W14 IO_L22P_T3_13 (io), W15 IO_L23N_T3_13 (io), W16 IO_L21P_T3_DQS_13 (io), W17 IO_L14P_T2_SRCC_13 (io), W19 IO_L12N_T1_MRCC_13 (io), W20 IO_L11N_T1_SRCC_13 (io), W21 IO_L4P_T0_13 (io), W22 IO_L4N_T0_13 (io), Y14 IO_L22N_T3_13 (io), Y16 IO_L21N_T3_DQS_13 (io), Y17 IO_L14N_T2_SRCC_13 (io), Y18 IO_L13P_T2_MRCC_13 (io), Y19 IO_L13N_T2_MRCC_13 (io), Y20 VCCO_13 (power), Y21 IO_L7P_T1_13 (io), Y22 IO_L7N_T1_13 (io)
part B pins: A8 IO_L21N_T3_DQS_16 (io), A9 IO_L21P_T3_DQS_16 (io), A10 IO_L23N_T3_16 (io), A11 IO_L23P_T3_16 (io), A13 IO_L4P_T0_AD9P_15 (io), A14 IO_L4N_T0_AD9N_15 (io), A15 IO_L9N_T1_DQS_AD11N_15 (io), A16 IO_L8N_T1_AD3N_15 (io), A17 VCCO_15 (power), A18 IO_L10N_T1_AD4N_15 (io), A19 IO_L20N_T3_A19_15 (io), A20 IO_L22P_T3_A17_15 (io), A21 IO_L22N_T3_A16_15 (io), B8 IO_L22N_T3_16 (io), B10 IO_L20N_T3_16 (io), B11 IO_L20P_T3_16 (io), B12 IO_L2N_T0_AD8N_15 (io), B13 IO_L5N_T0_AD2N_15 (io), B14 VCCO_15 (power), B15 IO_L9P_T1_DQS_AD11P_15 (io), B16 IO_L8P_T1_AD3P_15 (io), B17 IO_L10P_T1_AD4P_15 (io), B18 IO_L20P_T3_A20_15 (io), B20 IO_L24P_T3_RS1_15 (io), B21 IO_L24N_T3_RS0_15 (io), B22 IO_L21N_T3_DQS_A18_15 (io), C8 IO_L22P_T3_16 (io), C9 IO_L19N_T3_VREF_16 (io), C10 IO_L7N_T1_16 (io), C11 VCCO_16 (power), C12 IO_L2P_T0_AD8P_15 (io), C13 IO_L5P_T0_AD2P_15 (io), C14 IO_L7P_T1_AD10P_15 (io), C15 IO_L7N_T1_AD10N_15 (io), C17 IO_L12P_T1_MRCC_AD5P_15 (io), C18 IO_L12N_T1_MRCC_AD5N_15 (io), C19 IO_L19P_T3_A22_15 (io), C20 IO_L19N_T3_A21_VREF_15 (io), C21 VCCO_15 (power), C22 IO_L21P_T3_DQS_15 (io), D8 VCCO_16 (power), D9 IO_L19P_T3_16 (io), D10 IO_L7P_T1_16 (io), D11 IO_L12N_T1_MRCC_16 (io), D12 IO_0_15 (io), D14 IO_L6N_T0_VREF_15 (io), D15 IO_L11P_T1_SRCC_AD12P_15 (io), D16 IO_L11N_T1_SRCC_AD12N_15 (io), D17 IO_L14N_T2_SRCC_15 (io), D18 VCCO_15 (power), D19 IO_L18P_T2_A24_15 (io), D20 IO_L18N_T2_A23_15 (io), D21 IO_L23P_T3_FOE_B_15 (io), D22 IO_L23N_T3_FWE_B_15 (io), E8 IO_24_T3_16 (io), E9 IO_L15N_T2_DQS_16 (io), E11 IO_L12P_T1_MRCC_16 (io), E12 IO_L10N_T1_16 (io), E13 IO_L10P_T1_16 (io), E14 IO_L6P_T0_15 (io), E15 VCCO_15 (power), E16 IO_L14P_T2_SRCC_15 (io), E17 IO_L13P_T2_MRCC_15 (io), E18 IO_L13N_T2_MRCC_15 (io), E19 IO_L17N_T2_A25_15 (io), F8 IO_L17N_T2_16 (io), F9 IO_L15P_T2_DQS_16 (io), F10 IO_L11N_T1_SRCC_16 (io), F11 IO_L11P_T1_SRCC_16 (io), F12 VCCO_16 (power), F13 IO_L8N_T1_16 (io), F14 IO_6_T0_VREF_16 (io), F15 IO_L3P_T0_DQS_AD1P_15 (io), F16 IO_L3N_T0_DQS_AD1N_15 (io), F18 IO_L17P_T2_A26_15 (io), G8 IO_L17P_T2_16 (io), G9 VCCO_16 (power), G10 IO_L13N_T2_MRCC_16 (io), G11 IO_L13P_T2_MRCC_16 (io), G12 IO_L14N_T2_SRCC_16 (io), G13 IO_L8P_T1_16 (io), G15 IO_L1P_T0_AD0P_15 (io), G16 IO_L1N_T0_AD0N_15 (io), G17 IO_L15N_T2_DQS_ADV_B_15 (io), H8 IO_L16N_T2_16 (io), H9 IO_L16P_T2_16 (io), H10 IO_18_T2_16 (io), H12 IO_L14P_T2_SRCC_16 (io), H13 IO_L9N_T1_DQS_16 (io), H14 IO_L9P_T1_DQS_16 (io), H15 IO_25_15 (io), H16 VCCO_15 (power), H17 IO_L15P_T2_DQS_15 (io), J16 IO_L16P_T2_A28_15 (io), J17 IO_L16N_T2_A27_15 (io)
part C pins: AA1 IO_L22P_T3_34 (io), AA3 IO_L23P_T3_34 (io), AA4 IO_L24P_T3_34 (io), AA5 IO_L1P_T0_33 (io), AA6 IO_L3P_T0_DQS_33 (io), AA7 VCCO_33 (power), AA8 IO_L5N_T0_33 (io), AA9 IO_L5P_T0_33 (io), AA10 IO_L4P_T0_33 (io), AA11 IO_L20P_T3_33 (io), AA13 IO_L21N_T3_DQS_33 (io), AB1 IO_L22N_T3_34 (io), AB2 IO_L23N_T3_34 (io), AB3 IO_L24N_T3_34 (io), AB4 VCCO_34 (power), AB5 IO_L1N_T0_33 (io), AB6 IO_L3N_T0_DQS_33 (io), AB7 IO_L2N_T0_33 (io), AB8 IO_L2P_T0_33 (io), AB10 IO_L4N_T0_33 (io), AB11 IO_L20N_T3_33 (io), AB12 IO_L22N_T3_33 (io), AB13 IO_L22P_T3_33 (io), K1 IO_L2P_T0_34 (io), K2 IO_L4N_T0_34 (io), K3 IO_L4P_T0_34 (io), K4 IO_0_VRN_34 (io), L1 IO_L2N_T0_34 (io), L3 IO_L1P_T0_34 (io), L4 IO_L6N_T0_VREF_34 (io), L5 IO_L6P_T0_34 (io), M1 IO_L3N_T0_DQS_34 (io), M2 IO_L3P_T0_DQS_34 (io), M3 IO_L1N_T0_34 (io), M4 VCCO_34 (power), M5 IO_L9P_T1_DQS_34 (io), N1 VCCO_34 (power), N2 IO_L5N_T0_34 (io), N3 IO_L5P_T0_34 (io), N4 IO_L9N_T1_DQS_34 (io), N5 IO_L18P_T2_34 (io), P1 IO_L8P_T1_34 (io), P2 IO_L7P_T1_34 (io), P4 IO_L11P_T1_SRCC_34 (io), P5 IO_L18N_T2_34 (io), R1 IO_L8N_T1_34 (io), R2 IO_L7N_T1_34 (io), R3 IO_L12P_T1_MRCC_34 (io), R4 IO_L11N_T1_SRCC_34 (io), R5 VCCO_34 (power), R6 IO_L8N_T1_33 (io), R7 IO_L8P_T1_33 (io), T1 IO_L10P_T1_34 (io), T2 VCCO_34 (power), T3 IO_L12N_T1_MRCC_34 (io), T4 IO_L13P_T2_MRCC_34 (io), T5 IO_L16P_T2_34 (io), T6 IO_0_VRN_33 (io), T8 IO_L18N_T2_33 (io), T9 IO_L18P_T2_33 (io), T10 IO_L16N_T2_33 (io), T11 IO_L16P_T2_33 (io), T12 VCCO_33 (power), T13 IO_L24P_T3_33 (io), T14 IO_25_VRP_33 (io), U1 IO_L10N_T1_34 (io), U2 IO_L15P_T2_DQS_34 (io), U3 IO_L13N_T2_MRCC_34 (io), U5 IO_L16N_T2_34 (io), U6 IO_L10N_T1_33 (io), U7 IO_L10P_T1_33 (io), U8 IO_L9P_T1_DQS_33 (io), U9 VCCO_33 (power), U10 IO_L14P_T2_SRCC_33 (io), U11 IO_L17N_T2_33 (io), U12 IO_L17P_T2_33 (io), U13 IO_L24N_T3_33 (io), V2 IO_L15N_T2_DQS_34 (io), V3 IO_L17P_T2_34 (io), V4 IO_L14P_T2_SRCC_34 (io), V5 IO_25_VRP_34 (io), V6 VCCO_33 (power), V7 IO_L11P_T1_SRCC_33 (io), V8 IO_L9N_T1_DQS_33 (io), V9 IO_L14N_T2_SRCC_33 (io), V10 IO_L15P_T2_DQS_33 (io), V12 IO_L23N_T3_33 (io), V13 IO_L23P_T3_33 (io), W1 IO_L20P_T3_34 (io), W2 IO_L17N_T2_34 (io), W3 VCCO_34 (power), W4 IO_L14N_T2_SRCC_34 (io), W5 IO_L19P_T3_34 (io), W6 IO_L7P_T1_33 (io), W7 IO_L11N_T1_SRCC_33 (io), W9 IO_L13P_T2_MRCC_33 (io), W10 IO_L15N_T2_DQS_33 (io), W11 IO_L6P_T0_33 (io), W12 IO_L19P_T3_33 (io), W13 VCCO_33 (power), Y1 IO_L20N_T3_34 (io), Y2 IO_L21N_T3_DQS_34 (io), Y3 IO_L21P_T3_DQS_34 (io), Y4 IO_L19N_T3_VREF_34 (io), Y6 IO_L7N_T1_33 (io), Y7 IO_L12N_T1_MRCC_33 (io), Y8 IO_L12P_T1_MRCC_33 (io), Y9 IO_L13N_T2_MRCC_33 (io), Y10 VCCO_33 (power), Y11 IO_L6N_T0_VREF_33 (io), Y12 IO_L19N_T3_VREF_33 (io), Y13 IO_L21P_T3_DQS_33 (io)
part D pins: A3 MGTXTXN3_115 (io), A4 MGTXTXP3_115 (io), B1 MGTXTXN2_115 (io), B2 MGTXTXP2_115 (io), B5 MGTXRXN3_115 (io), B6 MGTXRXP3_115 (io), C3 MGTXRXN2_115 (io), C4 MGTXRXP2_115 (io), D1 MGTXTXN1_115 (io), D2 MGTXTXP1_115 (io), D5 MGTREFCLK0N_115 (io), D6 MGTREFCLK0P_115 (io), E3 MGTXRXN1_115 (io), E4 MGTXRXP1_115 (io), F1 MGTXTXN0_115 (io), F2 MGTXTXP0_115 (io), F5 MGTREFCLK1N_115 (io), F6 MGTREFCLK1P_115 (io), G3 MGTXRXN0_115 (io), G4 MGTXRXP0_115 (io)
part E pins: A2 MGTAVTT (power), A6 MGTAVCC (power), C2 MGTAVTT (power), C6 MGTAVCC (power), E2 MGTAVTT (power), E6 MGTAVCC (power), G2 MGTAVTT (power), G6 MGTAVCC (power), H1 MGTAVTTRCAL_115 (power), H2 MGTRREF_115 (power), J4 MGTVCCAUX (power)
part F pins: G7 CCLK_0 (io), H6 M1_0 (io), H7 M0_0 (io), J5 M2_0 (io), J6 TDO_0 (io), J7 VCCO_0 (power), K6 TDI_0 (io), K7 TCK_0 (io), L6 TMS_0 (io), L7 INIT_B_0 (io), L11 VREFN_0 (io), L12 VP_0 (io), M6 PROGRAM_B_0 (io), M7 CFGBVS_0 (io), M11 VN_0 (io), M12 VREFP_0 (io), N7 VCCO_0 (power), N11 DXN_0 (io), N12 DXP_0 (io), P6 DONE_0 (io)
part G pins: A1 GND (power), A5 GND (power), A7 GND (power), A12 GND (power), A22 GND (power), AA2 GND (power), AA12 GND (power), AA22 GND (power), AB9 GND (power), AB19 GND (power), B3 GND (power), B4 GND (power), B7 GND (power), B9 GND (power), B19 GND (power), C1 GND (power), C5 GND (power), C7 GND (power), C16 GND (power), D3 GND (power), D4 GND (power), D7 GND (power), D13 GND (power), E1 GND (power), E5 GND (power), E7 GND (power), E10 GND (power), E20 GND (power), F3 GND (power), F4 GND (power), F7 GND (power), F17 GND (power), G1 GND (power), G5 GND (power), G14 GND (power), H3 GND (power), H4 GND (power), H5 GND (power), H11 GND (power), H21 GND (power), J1 GND (power), J2 GND (power), J3 GND (power), J8 GND (power), J9 VCCINT (power), J10 GND (power), J11 VCCINT (power), J12 GND (power), J13 VCCINT (power), J14 GND (power), J15 VCCINT (power), J18 GND (power), K5 GND (power), K8 VCCINT (power), K9 GND (power), K10 VCCAUX (power), K11 GNDADC_0 (power), K12 VCCADC_0 (power), K13 GND (power), K14 VCCINT (power), K15 GND (power), L2 GND (power), L8 GND (power), L9 VCCINT (power), L10 GND (power), L13 VCCBRAM (power), L14 GND (power), L15 VCCINT (power), L22 GND (power), M8 VCCINT (power), M9 GND (power), M10 VCCAUX (power), M13 GND (power), M14 VCCINT (power), M15 GND (power), M19 GND (power), N6 GND (power), N8 GND (power), N9 VCCINT (power), N10 GND (power), N13 VCCBRAM (power), N14 GND (power), N15 VCCINT (power), N16 GND (power), P3 GND (power), P7 VCCBATT_0 (power), P8 VCCAUX (power), P9 GND (power), P10 VCCAUX (power), P11 GND (power), P12 VCCAUX (power), P13 GND (power), P14 VCCINT (power), P15 GND (power), R8 GND (power), R9 VCCAUX (power), R10 GND (power), R11 VCCAUX (power), R12 GND (power), R13 VCCBRAM (power), R14 GND (power), R15 VCCINT (power), R20 GND (power), T7 GND (power), T17 GND (power), U4 GND (power), U14 GND (power), V1 GND (power), V11 GND (power), V21 GND (power), W8 GND (power), W18 GND (power), Y5 GND (power), Y15 GND (power)

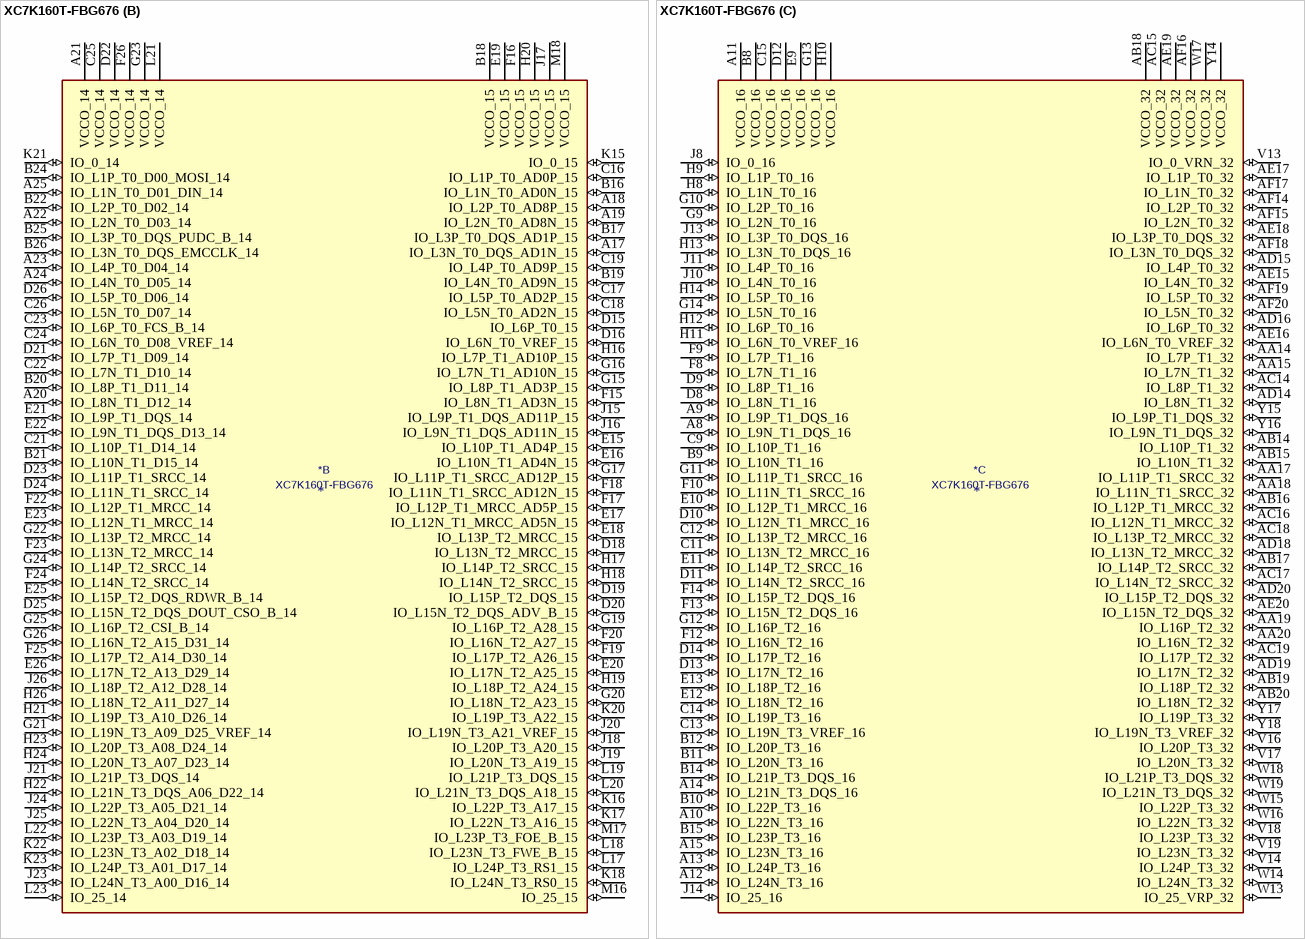
[diagram p7: symbol XC7K160T-FBG676]

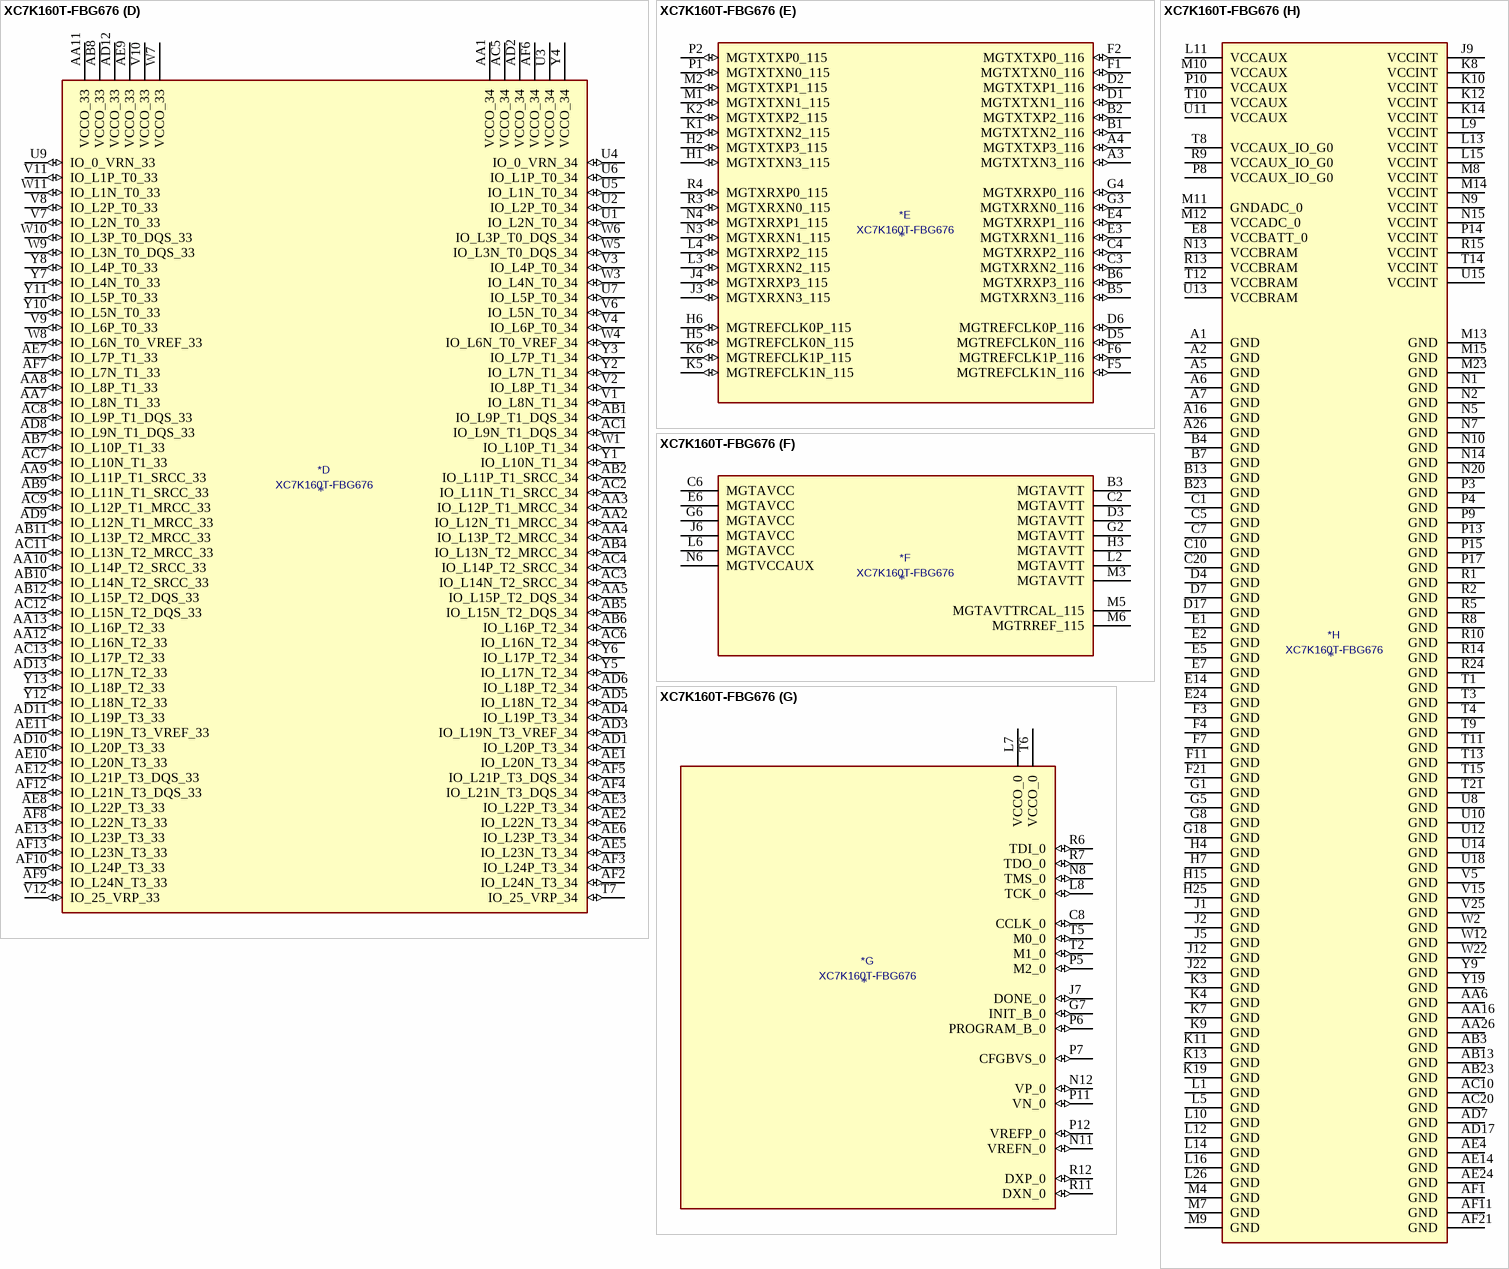
[diagram p8: symbol XC7K160T-FBG676]